# Altium schematic symbol library Microcontroller tinyAVR.SchLib: 370 symbols (part 6 of 11)
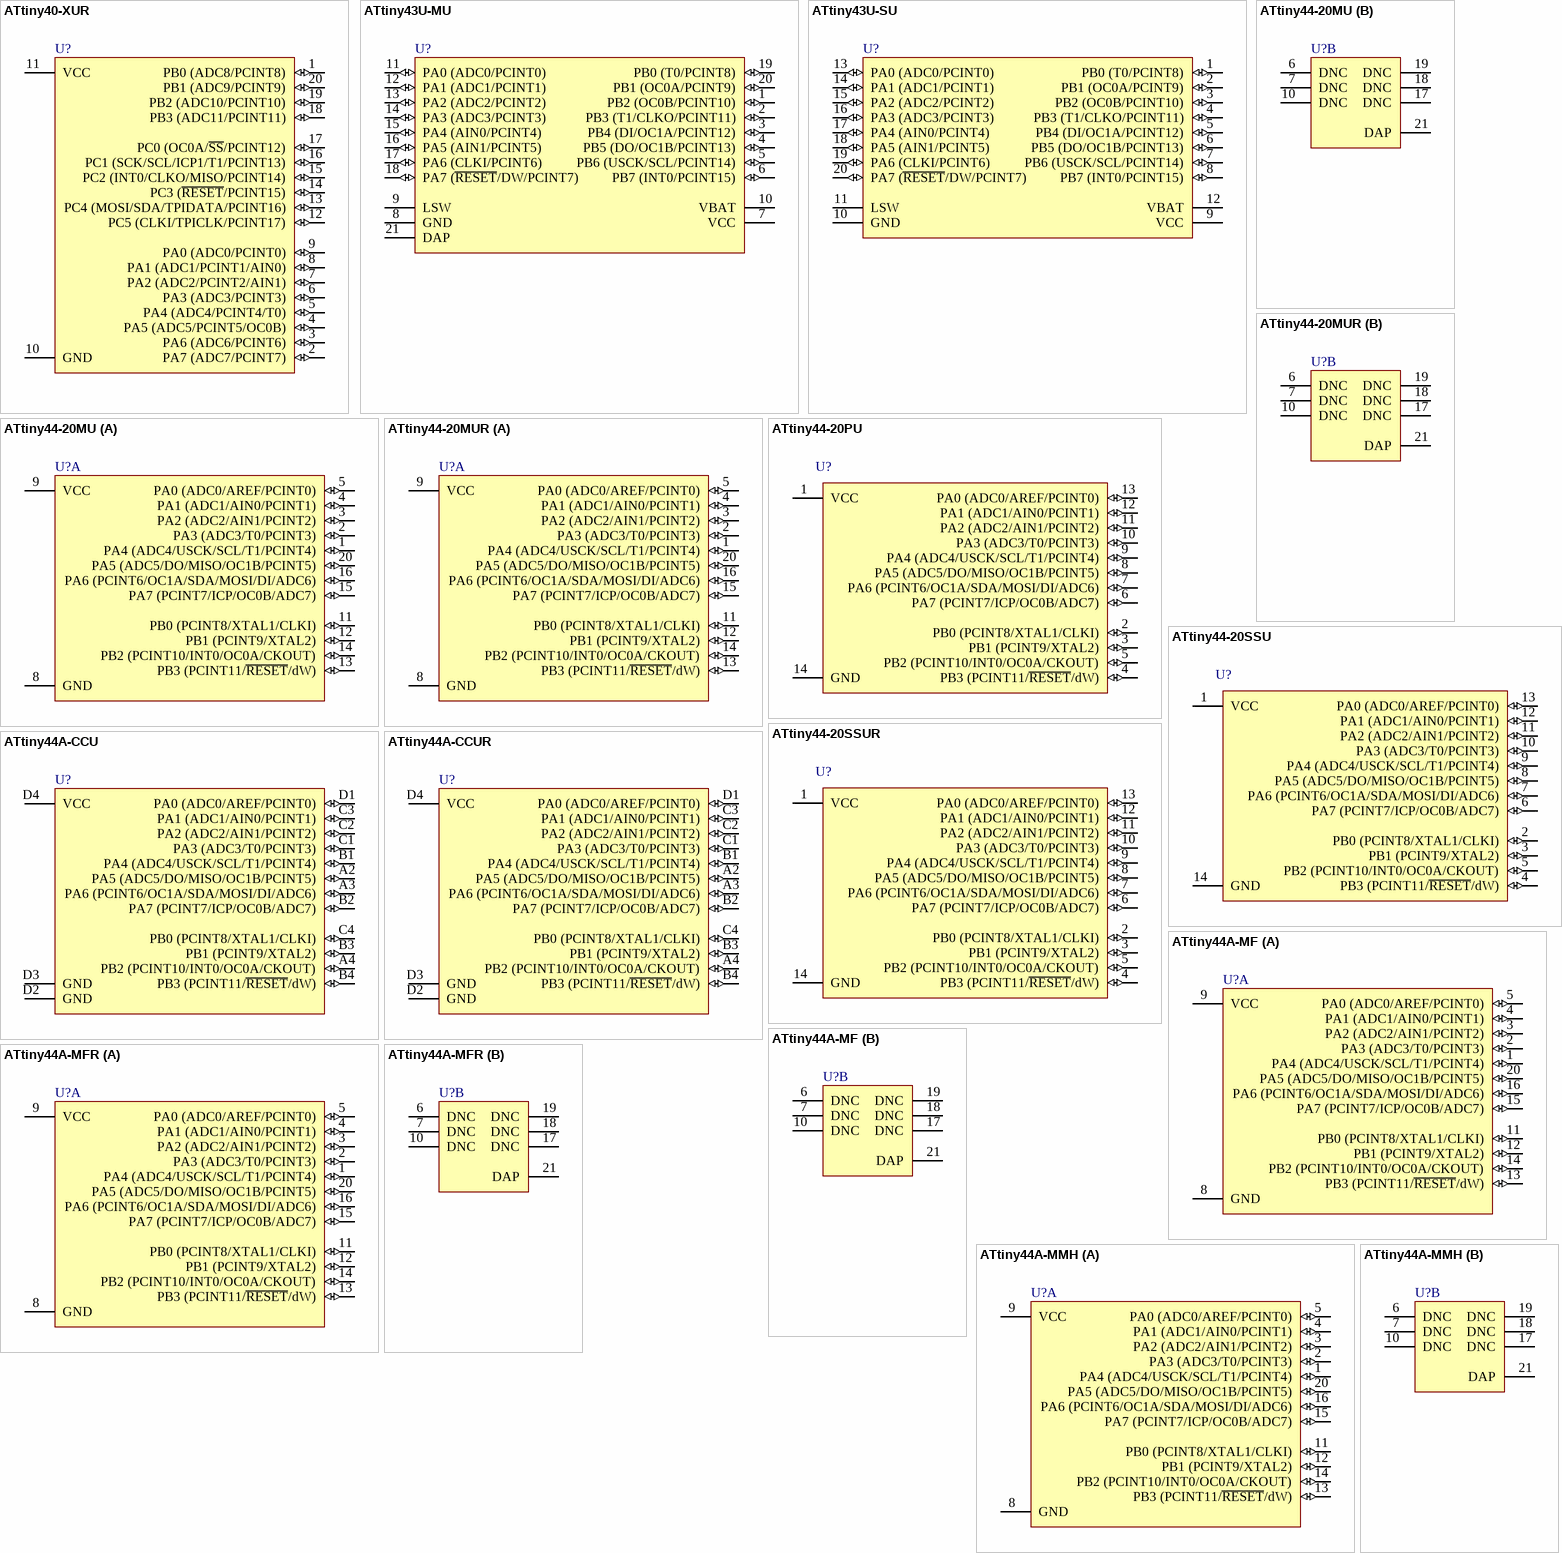
[diagram p31: symbols ATtiny40-XUR to ATtiny44A-MMH]

## ATtiny44A-MFR
designator U?
8-bit AVR Microcontroller,  20MHz, 1.8-5.5V, 4KB Flash, 256 Bytes EEPROM, 256 Bytes SRAM, 20-pin MLF, Industrial Grade (-40°C to 125°C), Pb-Free, Reel; DatasheetVersion: revD, Apr-2011; PackageVersion: revA, Oct-2004; PackageReference: 20M1; PackageDescription: 20-pad, 4 x 4 x 0.8 mm Body, Lead Pitch 0.50 mm, 2.6 mm Exposed Pad, Micro Lead Frame Package (MLF); Code_JEDEC: MO-220WGGD-5; ComponentLink1Description: Manufacturer URL; ComponentLink1URL: http://www.atmel.com/; ComponentLink2Description: ATtiny24A/44A/84A Datasheet; ComponentLink2URL: http://www.atmel.com/dyn/resources/prod_documents/doc8183.pdf; ComponentLink3Description: ATtiny24A/44A/84A Summary; ComponentLink3URL: http://www.atmel.com/dyn/resources/prod_documents/8183S.pdf
footprint 20M1_N (QFN, 20-Leads, Body 4x4mm, Pitch 0.5mm, Thermal Pad 2.7x2.7mm, IPC Medium Density)
footprint 20M1_L (QFN, 20-Leads, Body 4x4mm, Pitch 0.5mm, Thermal Pad 2.7x2.7mm, IPC High Density)
footprint 20M1_M (QFN, 20-Leads, Body 4x4mm, Pitch 0.5mm, Thermal Pad 2.7x2.7mm, IPC Low Density)
part A pins: 1 PA4 (ADC4/USCK/SCL/T1/PCINT4) (io), 2 PA3 (ADC3/T0/PCINT3) (io), 3 PA2 (ADC2/AIN1/PCINT2) (io), 4 PA1 (ADC1/AIN0/PCINT1) (io), 5 PA0 (ADC0/AREF/PCINT0) (io), 8 GND (power), 9 VCC (power), 11 PB0 (PCINT8/XTAL1/CLKI) (io), 12 PB1 (PCINT9/XTAL2) (io), 13 PB3 (PCINT11/~{RESET}/dW) (io), 14 PB2 (PCINT10/INT0/OC0A/CKOUT) (io), 15 PA7 (PCINT7/ICP/OC0B/ADC7) (io), 16 PA6 (PCINT6/OC1A/SDA/MOSI/DI/ADC6) (io), 20 PA5 (ADC5/DO/MISO/OC1B/PCINT5) (io)
part B pins: 6 DNC, 7 DNC, 10 DNC, 17 DNC, 18 DNC, 19 DNC, 21 DAP (power)

## ATtiny44A-MMH
designator U?
8-bit AVR Microcontroller,  20MHz, 1.8-5.5V, 4KB Flash, 256 Bytes EEPROM, 256 Bytes SRAM, 20-pin VQFN, Industrial Grade (-40°C to 85°C), Pb-Free; DatasheetVersion: revD, Apr-2011; PackageVersion: revB, Oct-2008; PackageReference: 20M2; PackageDescription: 20-pad, 3x3x0.85mm Body, Pitch 0.45mm, 1.55x1.55mm Exposed Pad, Plastic Very Thin QFN Package (VQFN); ComponentLink1Description: Manufacturer URL; ComponentLink1URL: http://www.atmel.com/; ComponentLink2Description: ATtiny24A/44A/84A Datasheet; ComponentLink2URL: http://www.atmel.com/dyn/resources/prod_documents/doc8183.pdf; ComponentLink3Description: ATtiny24A/44A/84A Summary; ComponentLink3URL: http://www.atmel.com/dyn/resources/prod_documents/8183S.pdf
footprint 20M2_N (QFN, 20-Leads, Body 3x3mm, Pitch 0.45mm, Thermal Pad 1.7x1.7mm, IPC Medium Density)
footprint 20M2_L (QFN, 20-Leads, Body 3x3mm, Pitch 0.45mm, Thermal Pad 1.7x1.7mm, IPC High Density)
footprint 20M2_M (QFN, 20-Leads, Body 3x3mm, Pitch 0.45mm, Thermal Pad 1.7x1.7mm, IPC Low Density)
part A pins: 1 PA4 (ADC4/USCK/SCL/T1/PCINT4) (io), 2 PA3 (ADC3/T0/PCINT3) (io), 3 PA2 (ADC2/AIN1/PCINT2) (io), 4 PA1 (ADC1/AIN0/PCINT1) (io), 5 PA0 (ADC0/AREF/PCINT0) (io), 8 GND (power), 9 VCC (power), 11 PB0 (PCINT8/XTAL1/CLKI) (io), 12 PB1 (PCINT9/XTAL2) (io), 13 PB3 (PCINT11/~{RESET}/dW) (io), 14 PB2 (PCINT10/INT0/OC0A/CKOUT) (io), 15 PA7 (PCINT7/ICP/OC0B/ADC7) (io), 16 PA6 (PCINT6/OC1A/SDA/MOSI/DI/ADC6) (io), 20 PA5 (ADC5/DO/MISO/OC1B/PCINT5) (io)
part B pins: 6 DNC, 7 DNC, 10 DNC, 17 DNC, 18 DNC, 19 DNC, 21 DAP (power)

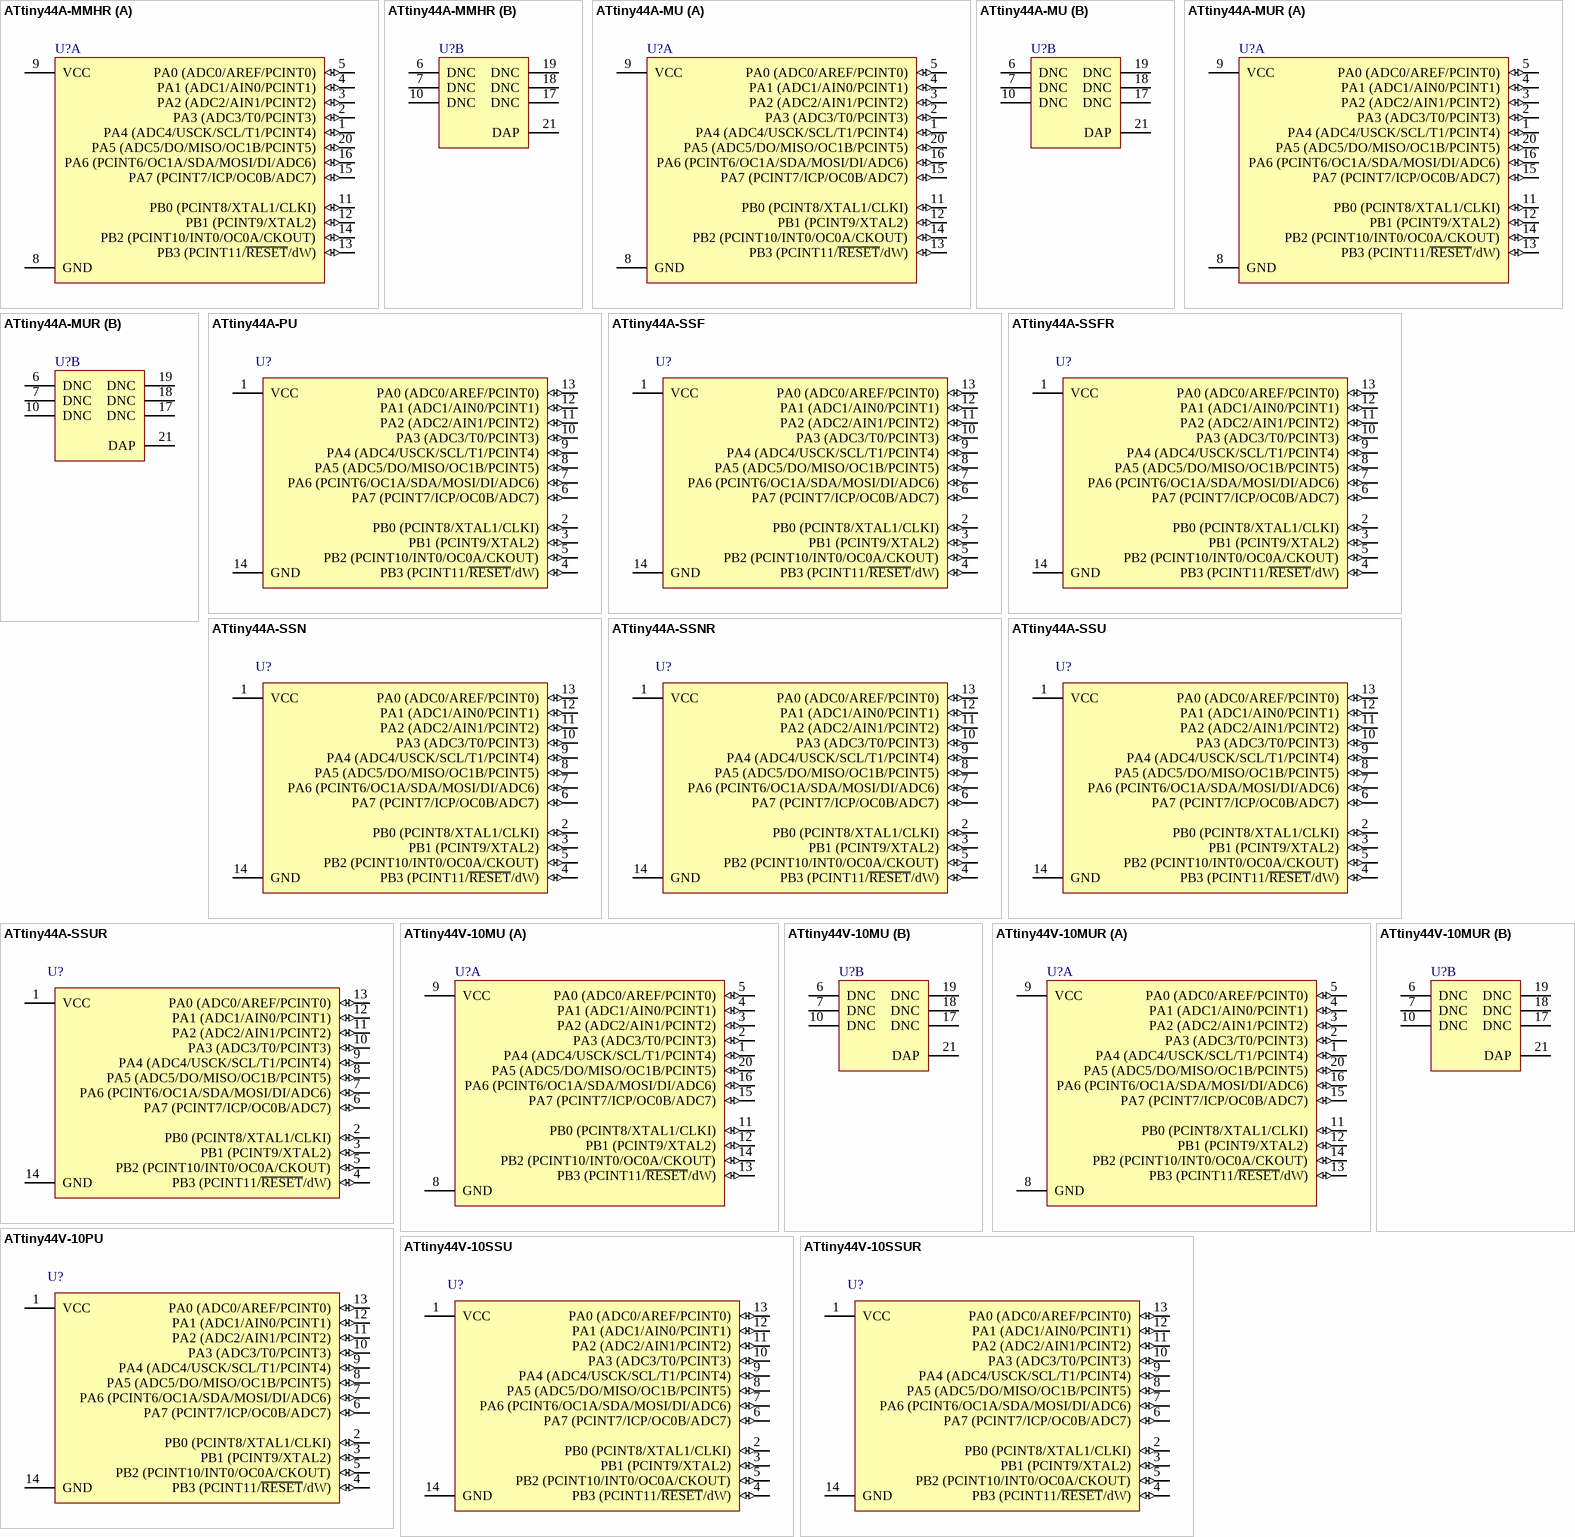
[diagram p12: symbols ATtiny44A-MMHR to ATtiny44V-10SSUR]

## ATtiny44A-MMHR
designator U?
8-bit AVR Microcontroller,  20MHz, 1.8-5.5V, 4KB Flash, 256 Bytes EEPROM, 256 Bytes SRAM, 20-pin VQFN, Industrial Grade (-40°C to 85°C), Pb-Free, Reel; DatasheetVersion: revD, Apr-2011; PackageVersion: revB, Oct-2008; PackageReference: 20M2; PackageDescription: 20-pad, 3x3x0.85mm Body, Pitch 0.45mm, 1.55x1.55mm Exposed Pad, Plastic Very Thin QFN Package (VQFN); ComponentLink1Description: Manufacturer URL; ComponentLink1URL: http://www.atmel.com/; ComponentLink2Description: ATtiny24A/44A/84A Datasheet; ComponentLink2URL: http://www.atmel.com/dyn/resources/prod_documents/doc8183.pdf; ComponentLink3Description: ATtiny24A/44A/84A Summary; ComponentLink3URL: http://www.atmel.com/dyn/resources/prod_documents/8183S.pdf
footprint 20M2_N (QFN, 20-Leads, Body 3x3mm, Pitch 0.45mm, Thermal Pad 1.7x1.7mm, IPC Medium Density)
footprint 20M2_L (QFN, 20-Leads, Body 3x3mm, Pitch 0.45mm, Thermal Pad 1.7x1.7mm, IPC High Density)
footprint 20M2_M (QFN, 20-Leads, Body 3x3mm, Pitch 0.45mm, Thermal Pad 1.7x1.7mm, IPC Low Density)
part A pins: 1 PA4 (ADC4/USCK/SCL/T1/PCINT4) (io), 2 PA3 (ADC3/T0/PCINT3) (io), 3 PA2 (ADC2/AIN1/PCINT2) (io), 4 PA1 (ADC1/AIN0/PCINT1) (io), 5 PA0 (ADC0/AREF/PCINT0) (io), 8 GND (power), 9 VCC (power), 11 PB0 (PCINT8/XTAL1/CLKI) (io), 12 PB1 (PCINT9/XTAL2) (io), 13 PB3 (PCINT11/~{RESET}/dW) (io), 14 PB2 (PCINT10/INT0/OC0A/CKOUT) (io), 15 PA7 (PCINT7/ICP/OC0B/ADC7) (io), 16 PA6 (PCINT6/OC1A/SDA/MOSI/DI/ADC6) (io), 20 PA5 (ADC5/DO/MISO/OC1B/PCINT5) (io)
part B pins: 6 DNC, 7 DNC, 10 DNC, 17 DNC, 18 DNC, 19 DNC, 21 DAP (power)

## ATtiny44A-MU
designator U?
8-bit AVR Microcontroller,  20MHz, 1.8-5.5V, 4KB Flash, 256 Bytes EEPROM, 256 Bytes SRAM, 20-pin MLF, Industrial Grade (-40°C to 85°C), Pb-Free; DatasheetVersion: revD, Apr-2011; PackageVersion: revA, Oct-2004; PackageReference: 20M1; PackageDescription: 20-pad, 4 x 4 x 0.8 mm Body, Lead Pitch 0.50 mm, 2.6 mm Exposed Pad, Micro Lead Frame Package (MLF); Code_JEDEC: MO-220WGGD-5; ComponentLink1Description: Manufacturer URL; ComponentLink1URL: http://www.atmel.com/; ComponentLink2Description: ATtiny24A/44A/84A Datasheet; ComponentLink2URL: http://www.atmel.com/dyn/resources/prod_documents/doc8183.pdf; ComponentLink3Description: ATtiny24A/44A/84A Summary; ComponentLink3URL: http://www.atmel.com/dyn/resources/prod_documents/8183S.pdf
footprint 20M1_N (QFN, 20-Leads, Body 4x4mm, Pitch 0.5mm, Thermal Pad 2.7x2.7mm, IPC Medium Density)
footprint 20M1_L (QFN, 20-Leads, Body 4x4mm, Pitch 0.5mm, Thermal Pad 2.7x2.7mm, IPC High Density)
footprint 20M1_M (QFN, 20-Leads, Body 4x4mm, Pitch 0.5mm, Thermal Pad 2.7x2.7mm, IPC Low Density)
part A pins: 1 PA4 (ADC4/USCK/SCL/T1/PCINT4) (io), 2 PA3 (ADC3/T0/PCINT3) (io), 3 PA2 (ADC2/AIN1/PCINT2) (io), 4 PA1 (ADC1/AIN0/PCINT1) (io), 5 PA0 (ADC0/AREF/PCINT0) (io), 8 GND (power), 9 VCC (power), 11 PB0 (PCINT8/XTAL1/CLKI) (io), 12 PB1 (PCINT9/XTAL2) (io), 13 PB3 (PCINT11/~{RESET}/dW) (io), 14 PB2 (PCINT10/INT0/OC0A/CKOUT) (io), 15 PA7 (PCINT7/ICP/OC0B/ADC7) (io), 16 PA6 (PCINT6/OC1A/SDA/MOSI/DI/ADC6) (io), 20 PA5 (ADC5/DO/MISO/OC1B/PCINT5) (io)
part B pins: 6 DNC, 7 DNC, 10 DNC, 17 DNC, 18 DNC, 19 DNC, 21 DAP (power)

## ATtiny44A-MUR
designator U?
8-bit AVR Microcontroller,  20MHz, 1.8-5.5V, 4KB Flash, 256 Bytes EEPROM, 256 Bytes SRAM, 20-pin MLF, Industrial Grade (-40°C to 85°C), Pb-Free, Reel; DatasheetVersion: revD, Apr-2011; PackageVersion: revA, Oct-2004; PackageReference: 20M1; PackageDescription: 20-pad, 4 x 4 x 0.8 mm Body, Lead Pitch 0.50 mm, 2.6 mm Exposed Pad, Micro Lead Frame Package (MLF); Code_JEDEC: MO-220WGGD-5; ComponentLink1Description: Manufacturer URL; ComponentLink1URL: http://www.atmel.com/; ComponentLink2Description: ATtiny24A/44A/84A Datasheet; ComponentLink2URL: http://www.atmel.com/dyn/resources/prod_documents/doc8183.pdf; ComponentLink3Description: ATtiny24A/44A/84A Summary; ComponentLink3URL: http://www.atmel.com/dyn/resources/prod_documents/8183S.pdf
footprint 20M1_N (QFN, 20-Leads, Body 4x4mm, Pitch 0.5mm, Thermal Pad 2.7x2.7mm, IPC Medium Density)
footprint 20M1_L (QFN, 20-Leads, Body 4x4mm, Pitch 0.5mm, Thermal Pad 2.7x2.7mm, IPC High Density)
footprint 20M1_M (QFN, 20-Leads, Body 4x4mm, Pitch 0.5mm, Thermal Pad 2.7x2.7mm, IPC Low Density)
part A pins: 1 PA4 (ADC4/USCK/SCL/T1/PCINT4) (io), 2 PA3 (ADC3/T0/PCINT3) (io), 3 PA2 (ADC2/AIN1/PCINT2) (io), 4 PA1 (ADC1/AIN0/PCINT1) (io), 5 PA0 (ADC0/AREF/PCINT0) (io), 8 GND (power), 9 VCC (power), 11 PB0 (PCINT8/XTAL1/CLKI) (io), 12 PB1 (PCINT9/XTAL2) (io), 13 PB3 (PCINT11/~{RESET}/dW) (io), 14 PB2 (PCINT10/INT0/OC0A/CKOUT) (io), 15 PA7 (PCINT7/ICP/OC0B/ADC7) (io), 16 PA6 (PCINT6/OC1A/SDA/MOSI/DI/ADC6) (io), 20 PA5 (ADC5/DO/MISO/OC1B/PCINT5) (io)
part B pins: 6 DNC, 7 DNC, 10 DNC, 17 DNC, 18 DNC, 19 DNC, 21 DAP (power)

## ATtiny44A-PU
designator U?
8-bit AVR Microcontroller,  20MHz, 1.8-5.5V, 4KB Flash, 256 Bytes EEPROM, 256 Bytes SRAM, 14-pin PDIP, Industrial Grade (-40°C to 85°C), Pb-Free; DatasheetVersion: revD, Apr-2011; PackageVersion: revB, Oct-2010; PackageReference: 14P3; PackageDescription: 14-Lead Plastic Dual In-Line, 300 mil/7.62 mm Wide Body (PDIP); Code_JEDEC: MS-001-AA; ComponentLink1Description: Manufacturer URL; ComponentLink1URL: http://www.atmel.com/; ComponentLink2Description: ATtiny24A/44A/84A Datasheet; ComponentLink2URL: http://www.atmel.com/dyn/resources/prod_documents/doc8183.pdf; ComponentLink3Description: ATtiny24A/44A/84A Summary; ComponentLink3URL: http://www.atmel.com/dyn/resources/prod_documents/8183S.pdf
footprint 14P3 (DIP, 14-Leads, Row Spacing 7.62mm, Pitch 2.54mm, Body 19.2x6.6mm)
pins: 1 VCC (power), 2 PB0 (PCINT8/XTAL1/CLKI) (io), 3 PB1 (PCINT9/XTAL2) (io), 4 PB3 (PCINT11/~{RESET}/dW) (io), 5 PB2 (PCINT10/INT0/OC0A/CKOUT) (io), 6 PA7 (PCINT7/ICP/OC0B/ADC7) (io), 7 PA6 (PCINT6/OC1A/SDA/MOSI/DI/ADC6) (io), 8 PA5 (ADC5/DO/MISO/OC1B/PCINT5) (io), 9 PA4 (ADC4/USCK/SCL/T1/PCINT4) (io), 10 PA3 (ADC3/T0/PCINT3) (io), 11 PA2 (ADC2/AIN1/PCINT2) (io), 12 PA1 (ADC1/AIN0/PCINT1) (io), 13 PA0 (ADC0/AREF/PCINT0) (io), 14 GND (power)

## ATtiny44A-SSF
designator U?
8-bit AVR Microcontroller,  20MHz, 1.8-5.5V, 4KB Flash, 256 Bytes EEPROM, 256 Bytes SRAM, 14-pin SOIC, Industrial Grade (-40°C to 125°C), Pb-Free; DatasheetVersion: revD, Apr-2011; PackageVersion: revA, Feb-2002; PackageReference: 14S1; PackageDescription: 14-Lead, 0.150” Wide Body, Plastic Gull Wing Small Outline Package (SOIC); Code_JEDEC: MS-012-AB; Code_IPC: SOIC127P600-14; ComponentLink1Description: Manufacturer URL; ComponentLink1URL: http://www.atmel.com/; ComponentLink2Description: ATtiny24A/44A/84A Datasheet; ComponentLink2URL: http://www.atmel.com/dyn/resources/prod_documents/doc8183.pdf; ComponentLink3Description: ATtiny24A/44A/84A Summary; ComponentLink3URL: http://www.atmel.com/dyn/resources/prod_documents/8183S.pdf
footprint 14S1_N (SOIC, 14-Leads, Body 8.6x3.9mm, Pitch 1.27mm, IPC Medium Density)
footprint 14S1_L (SOIC, 14-Leads, Body 8.6x3.9mm, Pitch 1.27mm, IPC High Density)
footprint 14S1_M (SOIC, 14-Leads, Body 8.6x3.9mm, Pitch 1.27mm, IPC Low Density)
pins: 1 VCC (power), 2 PB0 (PCINT8/XTAL1/CLKI) (io), 3 PB1 (PCINT9/XTAL2) (io), 4 PB3 (PCINT11/~{RESET}/dW) (io), 5 PB2 (PCINT10/INT0/OC0A/CKOUT) (io), 6 PA7 (PCINT7/ICP/OC0B/ADC7) (io), 7 PA6 (PCINT6/OC1A/SDA/MOSI/DI/ADC6) (io), 8 PA5 (ADC5/DO/MISO/OC1B/PCINT5) (io), 9 PA4 (ADC4/USCK/SCL/T1/PCINT4) (io), 10 PA3 (ADC3/T0/PCINT3) (io), 11 PA2 (ADC2/AIN1/PCINT2) (io), 12 PA1 (ADC1/AIN0/PCINT1) (io), 13 PA0 (ADC0/AREF/PCINT0) (io), 14 GND (power)

## ATtiny44A-SSFR
designator U?
8-bit AVR Microcontroller,  20MHz, 1.8-5.5V, 4KB Flash, 256 Bytes EEPROM, 256 Bytes SRAM, 14-pin SOIC, Industrial Grade (-40°C to 125°C), Pb-Free, Reel; DatasheetVersion: revD, Apr-2011; PackageVersion: revA, Feb-2002; PackageReference: 14S1; PackageDescription: 14-Lead, 0.150” Wide Body, Plastic Gull Wing Small Outline Package (SOIC); Code_JEDEC: MS-012-AB; Code_IPC: SOIC127P600-14; ComponentLink1Description: Manufacturer URL; ComponentLink1URL: http://www.atmel.com/; ComponentLink2Description: ATtiny24A/44A/84A Datasheet; ComponentLink2URL: http://www.atmel.com/dyn/resources/prod_documents/doc8183.pdf; ComponentLink3Description: ATtiny24A/44A/84A Summary; ComponentLink3URL: http://www.atmel.com/dyn/resources/prod_documents/8183S.pdf
footprint 14S1_N (SOIC, 14-Leads, Body 8.6x3.9mm, Pitch 1.27mm, IPC Medium Density)
footprint 14S1_L (SOIC, 14-Leads, Body 8.6x3.9mm, Pitch 1.27mm, IPC High Density)
footprint 14S1_M (SOIC, 14-Leads, Body 8.6x3.9mm, Pitch 1.27mm, IPC Low Density)
pins: 1 VCC (power), 2 PB0 (PCINT8/XTAL1/CLKI) (io), 3 PB1 (PCINT9/XTAL2) (io), 4 PB3 (PCINT11/~{RESET}/dW) (io), 5 PB2 (PCINT10/INT0/OC0A/CKOUT) (io), 6 PA7 (PCINT7/ICP/OC0B/ADC7) (io), 7 PA6 (PCINT6/OC1A/SDA/MOSI/DI/ADC6) (io), 8 PA5 (ADC5/DO/MISO/OC1B/PCINT5) (io), 9 PA4 (ADC4/USCK/SCL/T1/PCINT4) (io), 10 PA3 (ADC3/T0/PCINT3) (io), 11 PA2 (ADC2/AIN1/PCINT2) (io), 12 PA1 (ADC1/AIN0/PCINT1) (io), 13 PA0 (ADC0/AREF/PCINT0) (io), 14 GND (power)

## ATtiny44A-SSN
designator U?
8-bit AVR Microcontroller,  20MHz, 1.8-5.5V, 4KB Flash, 256 Bytes EEPROM, 256 Bytes SRAM, 14-pin SOIC, Industrial Grade (-40°C to 105°C), Pb-Free; DatasheetVersion: revD, Apr-2011; PackageVersion: revA, Feb-2002; PackageReference: 14S1; PackageDescription: 14-Lead, 0.150” Wide Body, Plastic Gull Wing Small Outline Package (SOIC); Code_JEDEC: MS-012-AB; Code_IPC: SOIC127P600-14; ComponentLink1Description: Manufacturer URL; ComponentLink1URL: http://www.atmel.com/; ComponentLink2Description: ATtiny24A/44A/84A Datasheet; ComponentLink2URL: http://www.atmel.com/dyn/resources/prod_documents/doc8183.pdf; ComponentLink3Description: ATtiny24A/44A/84A Summary; ComponentLink3URL: http://www.atmel.com/dyn/resources/prod_documents/8183S.pdf
footprint 14S1_N (SOIC, 14-Leads, Body 8.6x3.9mm, Pitch 1.27mm, IPC Medium Density)
footprint 14S1_L (SOIC, 14-Leads, Body 8.6x3.9mm, Pitch 1.27mm, IPC High Density)
footprint 14S1_M (SOIC, 14-Leads, Body 8.6x3.9mm, Pitch 1.27mm, IPC Low Density)
pins: 1 VCC (power), 2 PB0 (PCINT8/XTAL1/CLKI) (io), 3 PB1 (PCINT9/XTAL2) (io), 4 PB3 (PCINT11/~{RESET}/dW) (io), 5 PB2 (PCINT10/INT0/OC0A/CKOUT) (io), 6 PA7 (PCINT7/ICP/OC0B/ADC7) (io), 7 PA6 (PCINT6/OC1A/SDA/MOSI/DI/ADC6) (io), 8 PA5 (ADC5/DO/MISO/OC1B/PCINT5) (io), 9 PA4 (ADC4/USCK/SCL/T1/PCINT4) (io), 10 PA3 (ADC3/T0/PCINT3) (io), 11 PA2 (ADC2/AIN1/PCINT2) (io), 12 PA1 (ADC1/AIN0/PCINT1) (io), 13 PA0 (ADC0/AREF/PCINT0) (io), 14 GND (power)

## ATtiny44A-SSNR
designator U?
8-bit AVR Microcontroller,  20MHz, 1.8-5.5V, 4KB Flash, 256 Bytes EEPROM, 256 Bytes SRAM, 14-pin SOIC, Industrial Grade (-40°C to 105°C), Pb-Free, Reel; DatasheetVersion: revD, Apr-2011; PackageVersion: revA, Feb-2002; PackageReference: 14S1; PackageDescription: 14-Lead, 0.150” Wide Body, Plastic Gull Wing Small Outline Package (SOIC); Code_JEDEC: MS-012-AB; Code_IPC: SOIC127P600-14; ComponentLink1Description: Manufacturer URL; ComponentLink1URL: http://www.atmel.com/; ComponentLink2Description: ATtiny24A/44A/84A Datasheet; ComponentLink2URL: http://www.atmel.com/dyn/resources/prod_documents/doc8183.pdf; ComponentLink3Description: ATtiny24A/44A/84A Summary; ComponentLink3URL: http://www.atmel.com/dyn/resources/prod_documents/8183S.pdf
footprint 14S1_N (SOIC, 14-Leads, Body 8.6x3.9mm, Pitch 1.27mm, IPC Medium Density)
footprint 14S1_L (SOIC, 14-Leads, Body 8.6x3.9mm, Pitch 1.27mm, IPC High Density)
footprint 14S1_M (SOIC, 14-Leads, Body 8.6x3.9mm, Pitch 1.27mm, IPC Low Density)
pins: 1 VCC (power), 2 PB0 (PCINT8/XTAL1/CLKI) (io), 3 PB1 (PCINT9/XTAL2) (io), 4 PB3 (PCINT11/~{RESET}/dW) (io), 5 PB2 (PCINT10/INT0/OC0A/CKOUT) (io), 6 PA7 (PCINT7/ICP/OC0B/ADC7) (io), 7 PA6 (PCINT6/OC1A/SDA/MOSI/DI/ADC6) (io), 8 PA5 (ADC5/DO/MISO/OC1B/PCINT5) (io), 9 PA4 (ADC4/USCK/SCL/T1/PCINT4) (io), 10 PA3 (ADC3/T0/PCINT3) (io), 11 PA2 (ADC2/AIN1/PCINT2) (io), 12 PA1 (ADC1/AIN0/PCINT1) (io), 13 PA0 (ADC0/AREF/PCINT0) (io), 14 GND (power)

## ATtiny44A-SSU
designator U?
8-bit AVR Microcontroller,  20MHz, 1.8-5.5V, 4KB Flash, 256 Bytes EEPROM, 256 Bytes SRAM, 14-pin SOIC, Industrial Grade (-40°C to 85°C), Pb-Free; DatasheetVersion: revD, Apr-2011; PackageVersion: revA, Feb-2002; PackageReference: 14S1; PackageDescription: 14-Lead, 0.150” Wide Body, Plastic Gull Wing Small Outline Package (SOIC); Code_JEDEC: MS-012-AB; Code_IPC: SOIC127P600-14; ComponentLink1Description: Manufacturer URL; ComponentLink1URL: http://www.atmel.com/; ComponentLink2Description: ATtiny24A/44A/84A Datasheet; ComponentLink2URL: http://www.atmel.com/dyn/resources/prod_documents/doc8183.pdf; ComponentLink3Description: ATtiny24A/44A/84A Summary; ComponentLink3URL: http://www.atmel.com/dyn/resources/prod_documents/8183S.pdf
footprint 14S1_N (SOIC, 14-Leads, Body 8.6x3.9mm, Pitch 1.27mm, IPC Medium Density)
footprint 14S1_L (SOIC, 14-Leads, Body 8.6x3.9mm, Pitch 1.27mm, IPC High Density)
footprint 14S1_M (SOIC, 14-Leads, Body 8.6x3.9mm, Pitch 1.27mm, IPC Low Density)
pins: 1 VCC (power), 2 PB0 (PCINT8/XTAL1/CLKI) (io), 3 PB1 (PCINT9/XTAL2) (io), 4 PB3 (PCINT11/~{RESET}/dW) (io), 5 PB2 (PCINT10/INT0/OC0A/CKOUT) (io), 6 PA7 (PCINT7/ICP/OC0B/ADC7) (io), 7 PA6 (PCINT6/OC1A/SDA/MOSI/DI/ADC6) (io), 8 PA5 (ADC5/DO/MISO/OC1B/PCINT5) (io), 9 PA4 (ADC4/USCK/SCL/T1/PCINT4) (io), 10 PA3 (ADC3/T0/PCINT3) (io), 11 PA2 (ADC2/AIN1/PCINT2) (io), 12 PA1 (ADC1/AIN0/PCINT1) (io), 13 PA0 (ADC0/AREF/PCINT0) (io), 14 GND (power)

## ATtiny44A-SSUR
designator U?
8-bit AVR Microcontroller,  20MHz, 1.8-5.5V, 4KB Flash, 256 Bytes EEPROM, 256 Bytes SRAM, 14-pin SOIC, Industrial Grade (-40°C to 85°C), Pb-Free, Reel; DatasheetVersion: revD, Apr-2011; PackageVersion: revA, Feb-2002; PackageReference: 14S1; PackageDescription: 14-Lead, 0.150” Wide Body, Plastic Gull Wing Small Outline Package (SOIC); Code_JEDEC: MS-012-AB; Code_IPC: SOIC127P600-14; ComponentLink1Description: Manufacturer URL; ComponentLink1URL: http://www.atmel.com/; ComponentLink2Description: ATtiny24A/44A/84A Datasheet; ComponentLink2URL: http://www.atmel.com/dyn/resources/prod_documents/doc8183.pdf; ComponentLink3Description: ATtiny24A/44A/84A Summary; ComponentLink3URL: http://www.atmel.com/dyn/resources/prod_documents/8183S.pdf
footprint 14S1_N (SOIC, 14-Leads, Body 8.6x3.9mm, Pitch 1.27mm, IPC Medium Density)
footprint 14S1_L (SOIC, 14-Leads, Body 8.6x3.9mm, Pitch 1.27mm, IPC High Density)
footprint 14S1_M (SOIC, 14-Leads, Body 8.6x3.9mm, Pitch 1.27mm, IPC Low Density)
pins: 1 VCC (power), 2 PB0 (PCINT8/XTAL1/CLKI) (io), 3 PB1 (PCINT9/XTAL2) (io), 4 PB3 (PCINT11/~{RESET}/dW) (io), 5 PB2 (PCINT10/INT0/OC0A/CKOUT) (io), 6 PA7 (PCINT7/ICP/OC0B/ADC7) (io), 7 PA6 (PCINT6/OC1A/SDA/MOSI/DI/ADC6) (io), 8 PA5 (ADC5/DO/MISO/OC1B/PCINT5) (io), 9 PA4 (ADC4/USCK/SCL/T1/PCINT4) (io), 10 PA3 (ADC3/T0/PCINT3) (io), 11 PA2 (ADC2/AIN1/PCINT2) (io), 12 PA1 (ADC1/AIN0/PCINT1) (io), 13 PA0 (ADC0/AREF/PCINT0) (io), 14 GND (power)

## ATtiny44V-10MU
designator U?
8-bit AVR Microcontroller, 10MHz, 1.8-5.5V, 4KB Flash, 256 Bytes EEPROM, 256 Bytes SRAM, 20-pin MLF, Industrial Grade (-40°C to 85°C), Pb-Free; DatasheetVersion: revK, Oct-2010; PackageVersion: revA, Oct-2004; PackageReference: 20M1; PackageDescription: 20-pad, 4 x 4 x 0.8 mm Body, Lead Pitch 0.50 mm, 2.6 mm Exposed Pad, Micro Lead Frame Package (MLF); Code_JEDEC: MO-220WGGD-5; ComponentLink1Description: Manufacturer URL; ComponentLink1URL: http://www.atmel.com/; ComponentLink2Description: ATtiny24/44/84 Datasheet; ComponentLink2URL: http://www.atmel.com/dyn/resources/prod_documents/doc8006.pdf; ComponentLink3Description: ATtiny24/44/84 Summary; ComponentLink3URL: http://www.atmel.com/dyn/resources/prod_documents/8006S.pdf
footprint 20M1_N (QFN, 20-Leads, Body 4x4mm, Pitch 0.5mm, Thermal Pad 2.7x2.7mm, IPC Medium Density)
footprint 20M1_L (QFN, 20-Leads, Body 4x4mm, Pitch 0.5mm, Thermal Pad 2.7x2.7mm, IPC High Density)
footprint 20M1_M (QFN, 20-Leads, Body 4x4mm, Pitch 0.5mm, Thermal Pad 2.7x2.7mm, IPC Low Density)
part A pins: 1 PA4 (ADC4/USCK/SCL/T1/PCINT4) (io), 2 PA3 (ADC3/T0/PCINT3) (io), 3 PA2 (ADC2/AIN1/PCINT2) (io), 4 PA1 (ADC1/AIN0/PCINT1) (io), 5 PA0 (ADC0/AREF/PCINT0) (io), 8 GND (power), 9 VCC (power), 11 PB0 (PCINT8/XTAL1/CLKI) (io), 12 PB1 (PCINT9/XTAL2) (io), 13 PB3 (PCINT11/~{RESET}/dW) (io), 14 PB2 (PCINT10/INT0/OC0A/CKOUT) (io), 15 PA7 (PCINT7/ICP/OC0B/ADC7) (io), 16 PA6 (PCINT6/OC1A/SDA/MOSI/DI/ADC6) (io), 20 PA5 (ADC5/DO/MISO/OC1B/PCINT5) (io)
part B pins: 6 DNC, 7 DNC, 10 DNC, 17 DNC, 18 DNC, 19 DNC, 21 DAP (power)

## ATtiny44V-10MUR
designator U?
8-bit AVR Microcontroller, 10MHz, 1.8-5.5V, 4KB Flash, 256 Bytes EEPROM, 256 Bytes SRAM, 20-pin MLF, Industrial Grade (-40°C to 85°C), Pb-Free, Reel; DatasheetVersion: revK, Oct-2010; PackageVersion: revA, Oct-2004; PackageReference: 20M1; PackageDescription: 20-pad, 4 x 4 x 0.8 mm Body, Lead Pitch 0.50 mm, 2.6 mm Exposed Pad, Micro Lead Frame Package (MLF); Code_JEDEC: MO-220WGGD-5; ComponentLink1Description: Manufacturer URL; ComponentLink1URL: http://www.atmel.com/; ComponentLink2Description: ATtiny24/44/84 Datasheet; ComponentLink2URL: http://www.atmel.com/dyn/resources/prod_documents/doc8006.pdf; ComponentLink3Description: ATtiny24/44/84 Summary; ComponentLink3URL: http://www.atmel.com/dyn/resources/prod_documents/8006S.pdf
footprint 20M1_N (QFN, 20-Leads, Body 4x4mm, Pitch 0.5mm, Thermal Pad 2.7x2.7mm, IPC Medium Density)
footprint 20M1_L (QFN, 20-Leads, Body 4x4mm, Pitch 0.5mm, Thermal Pad 2.7x2.7mm, IPC High Density)
footprint 20M1_M (QFN, 20-Leads, Body 4x4mm, Pitch 0.5mm, Thermal Pad 2.7x2.7mm, IPC Low Density)
part A pins: 1 PA4 (ADC4/USCK/SCL/T1/PCINT4) (io), 2 PA3 (ADC3/T0/PCINT3) (io), 3 PA2 (ADC2/AIN1/PCINT2) (io), 4 PA1 (ADC1/AIN0/PCINT1) (io), 5 PA0 (ADC0/AREF/PCINT0) (io), 8 GND (power), 9 VCC (power), 11 PB0 (PCINT8/XTAL1/CLKI) (io), 12 PB1 (PCINT9/XTAL2) (io), 13 PB3 (PCINT11/~{RESET}/dW) (io), 14 PB2 (PCINT10/INT0/OC0A/CKOUT) (io), 15 PA7 (PCINT7/ICP/OC0B/ADC7) (io), 16 PA6 (PCINT6/OC1A/SDA/MOSI/DI/ADC6) (io), 20 PA5 (ADC5/DO/MISO/OC1B/PCINT5) (io)
part B pins: 6 DNC, 7 DNC, 10 DNC, 17 DNC, 18 DNC, 19 DNC, 21 DAP (power)

## ATtiny44V-10PU
designator U?
8-bit AVR Microcontroller, 10MHz, 1.8-5.5V, 4KB Flash, 256 Bytes EEPROM, 256 Bytes SRAM, 14-pin PDIP, Industrial Grade (-40°C to 85°C), Pb-Free; DatasheetVersion: revK, Oct-2010; PackageVersion: revB, Oct-2010; PackageReference: 14P3; PackageDescription: 14-Lead Plastic Dual In-Line, 300 mil/7.62 mm Wide Body (PDIP); Code_JEDEC: MS-001-AA; ComponentLink1Description: Manufacturer URL; ComponentLink1URL: http://www.atmel.com/; ComponentLink2Description: ATtiny24/44/84 Datasheet; ComponentLink2URL: http://www.atmel.com/dyn/resources/prod_documents/doc8006.pdf; ComponentLink3Description: ATtiny24/44/84 Summary; ComponentLink3URL: http://www.atmel.com/dyn/resources/prod_documents/8006S.pdf
footprint 14P3 (DIP, 14-Leads, Row Spacing 7.62mm, Pitch 2.54mm, Body 19.2x6.6mm)
pins: 1 VCC (power), 2 PB0 (PCINT8/XTAL1/CLKI) (io), 3 PB1 (PCINT9/XTAL2) (io), 4 PB3 (PCINT11/~{RESET}/dW) (io), 5 PB2 (PCINT10/INT0/OC0A/CKOUT) (io), 6 PA7 (PCINT7/ICP/OC0B/ADC7) (io), 7 PA6 (PCINT6/OC1A/SDA/MOSI/DI/ADC6) (io), 8 PA5 (ADC5/DO/MISO/OC1B/PCINT5) (io), 9 PA4 (ADC4/USCK/SCL/T1/PCINT4) (io), 10 PA3 (ADC3/T0/PCINT3) (io), 11 PA2 (ADC2/AIN1/PCINT2) (io), 12 PA1 (ADC1/AIN0/PCINT1) (io), 13 PA0 (ADC0/AREF/PCINT0) (io), 14 GND (power)

## ATtiny44V-10SSU
designator U?
8-bit AVR Microcontroller, 10MHz, 1.8-5.5V, 4KB Flash, 256 Bytes EEPROM, 256 Bytes SRAM, 14-pin SOIC, Industrial Grade (-40°C to 85°C), Pb-Free; DatasheetVersion: revK, Oct-2010; PackageVersion: revA, Feb-2002; PackageReference: 14S1; PackageDescription: 14-Lead, 0.150” Wide Body, Plastic Gull Wing Small Outline Package (SOIC); Code_JEDEC: MS-012-AB; Code_IPC: SOIC127P600-14; ComponentLink1Description: Manufacturer URL; ComponentLink1URL: http://www.atmel.com/; ComponentLink2Description: ATtiny24/44/84 Datasheet; ComponentLink2URL: http://www.atmel.com/dyn/resources/prod_documents/doc8006.pdf; ComponentLink3Description: ATtiny24/44/84 Summary; ComponentLink3URL: http://www.atmel.com/dyn/resources/prod_documents/8006S.pdf
footprint 14S1_N (SOIC, 14-Leads, Body 8.6x3.9mm, Pitch 1.27mm, IPC Medium Density)
footprint 14S1_L (SOIC, 14-Leads, Body 8.6x3.9mm, Pitch 1.27mm, IPC High Density)
footprint 14S1_M (SOIC, 14-Leads, Body 8.6x3.9mm, Pitch 1.27mm, IPC Low Density)
pins: 1 VCC (power), 2 PB0 (PCINT8/XTAL1/CLKI) (io), 3 PB1 (PCINT9/XTAL2) (io), 4 PB3 (PCINT11/~{RESET}/dW) (io), 5 PB2 (PCINT10/INT0/OC0A/CKOUT) (io), 6 PA7 (PCINT7/ICP/OC0B/ADC7) (io), 7 PA6 (PCINT6/OC1A/SDA/MOSI/DI/ADC6) (io), 8 PA5 (ADC5/DO/MISO/OC1B/PCINT5) (io), 9 PA4 (ADC4/USCK/SCL/T1/PCINT4) (io), 10 PA3 (ADC3/T0/PCINT3) (io), 11 PA2 (ADC2/AIN1/PCINT2) (io), 12 PA1 (ADC1/AIN0/PCINT1) (io), 13 PA0 (ADC0/AREF/PCINT0) (io), 14 GND (power)

## ATtiny44V-10SSUR
designator U?
8-bit AVR Microcontroller, 10MHz, 1.8-5.5V, 4KB Flash, 256 Bytes EEPROM, 256 Bytes SRAM, 14-pin SOIC, Industrial Grade (-40°C to 85°C), Pb-Free, Reel; DatasheetVersion: revK, Oct-2010; PackageVersion: revA, Feb-2002; PackageReference: 14S1; PackageDescription: 14-Lead, 0.150” Wide Body, Plastic Gull Wing Small Outline Package (SOIC); Code_JEDEC: MS-012-AB; Code_IPC: SOIC127P600-14; ComponentLink1Description: Manufacturer URL; ComponentLink1URL: http://www.atmel.com/; ComponentLink2Description: ATtiny24/44/84 Datasheet; ComponentLink2URL: http://www.atmel.com/dyn/resources/prod_documents/doc8006.pdf; ComponentLink3Description: ATtiny24/44/84 Summary; ComponentLink3URL: http://www.atmel.com/dyn/resources/prod_documents/8006S.pdf
footprint 14S1_N (SOIC, 14-Leads, Body 8.6x3.9mm, Pitch 1.27mm, IPC Medium Density)
footprint 14S1_L (SOIC, 14-Leads, Body 8.6x3.9mm, Pitch 1.27mm, IPC High Density)
footprint 14S1_M (SOIC, 14-Leads, Body 8.6x3.9mm, Pitch 1.27mm, IPC Low Density)
pins: 1 VCC (power), 2 PB0 (PCINT8/XTAL1/CLKI) (io), 3 PB1 (PCINT9/XTAL2) (io), 4 PB3 (PCINT11/~{RESET}/dW) (io), 5 PB2 (PCINT10/INT0/OC0A/CKOUT) (io), 6 PA7 (PCINT7/ICP/OC0B/ADC7) (io), 7 PA6 (PCINT6/OC1A/SDA/MOSI/DI/ADC6) (io), 8 PA5 (ADC5/DO/MISO/OC1B/PCINT5) (io), 9 PA4 (ADC4/USCK/SCL/T1/PCINT4) (io), 10 PA3 (ADC3/T0/PCINT3) (io), 11 PA2 (ADC2/AIN1/PCINT2) (io), 12 PA1 (ADC1/AIN0/PCINT1) (io), 13 PA0 (ADC0/AREF/PCINT0) (io), 14 GND (power)

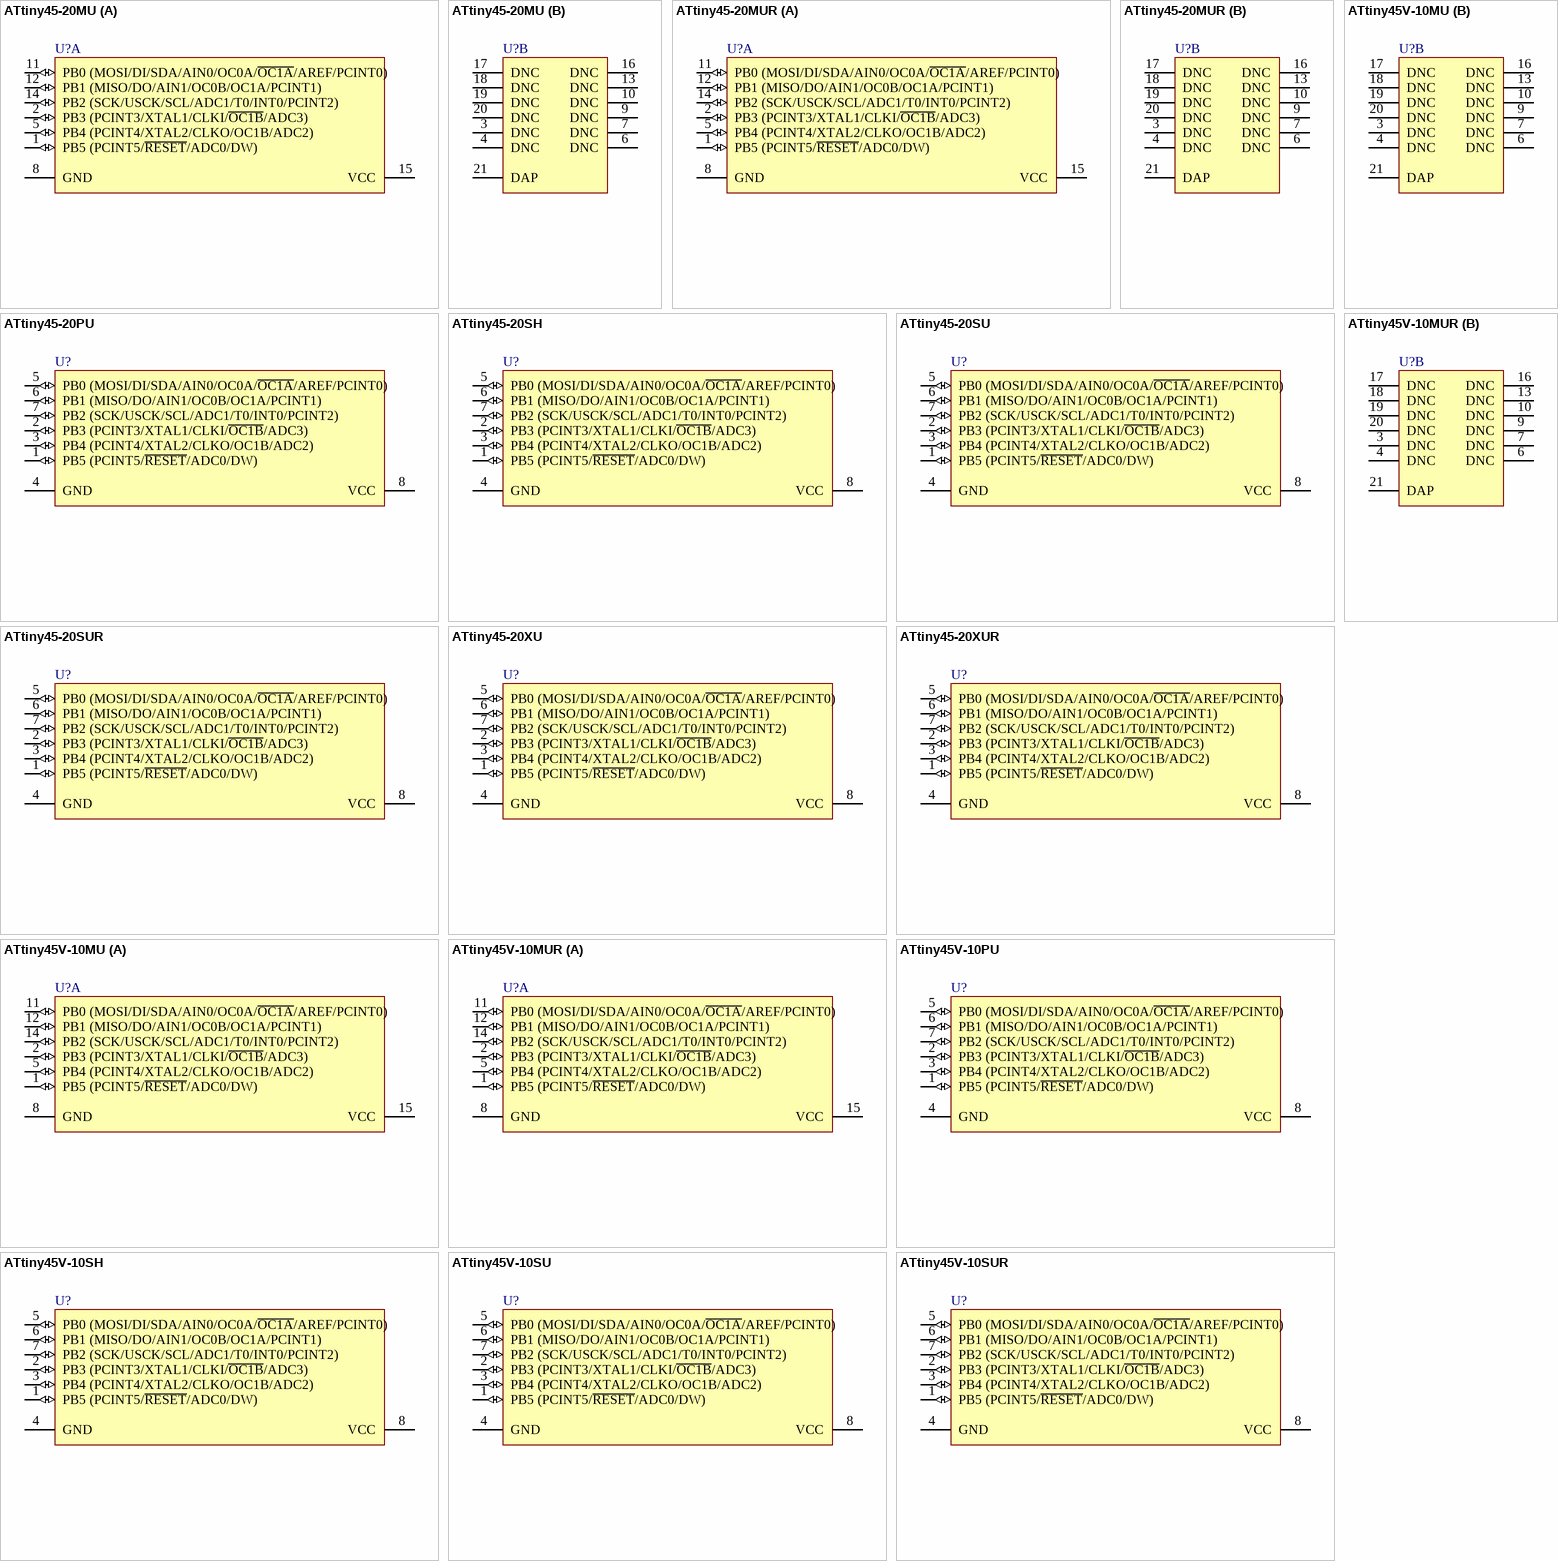
[diagram p13: symbols ATtiny45-20MU to ATtiny45V-10SUR]

## ATtiny45-20MU
designator U?
8-bit AVR Microcontroller, 20MHz, 2.7-5.5V, 4K Flash, 256 Bytes EEPROM, 256 Bytes SRAM, Industrial Grade (-40°C to 85°C), 20-pad MLF, Pb-Free; DatasheetVersion: revN, Apr-2011; PackageVersion: revA, Oct-2004; PackageReference: 20M1; PackageDescription: 20-pad, 4 x 4 x 0.8 mm Body, Lead Pitch 0.50 mm, 2.6 mm Exposed Pad, Micro Lead Frame Package (MLF); Code_JEDEC: MO-220WGGD-5; ComponentLink1Description: Manufacturer URL; ComponentLink1URL: http://www.atmel.com/; ComponentLink2Description: ATtiny25/45/85 Datasheet; ComponentLink2URL: http://www.atmel.com/dyn/resources/prod_documents/doc2586.pdf; ComponentLink3Description: ATtiny25/45/85 Summary; ComponentLink3URL: http://www.atmel.com/dyn/resources/prod_documents/2586S.pdf
footprint 20M1_N (QFN, 20-Leads, Body 4x4mm, Pitch 0.5mm, Thermal Pad 2.7x2.7mm, IPC Medium Density)
footprint 20M1_L (QFN, 20-Leads, Body 4x4mm, Pitch 0.5mm, Thermal Pad 2.7x2.7mm, IPC High Density)
footprint 20M1_M (QFN, 20-Leads, Body 4x4mm, Pitch 0.5mm, Thermal Pad 2.7x2.7mm, IPC Low Density)
part A pins: 1 PB5 (PCINT5/~{RESET}/ADC0/DW) (io), 2 PB3 (PCINT3/XTAL1/CLKI/~{OC1B}/ADC3) (io), 5 PB4 (PCINT4/XTAL2/CLKO/OC1B/ADC2) (io), 8 GND (power), 11 PB0 (MOSI/DI/SDA/AIN0/OC0A/~{OC1A}/AREF/PCINT0) (io), 12 PB1 (MISO/DO/AIN1/OC0B/OC1A/PCINT1) (io), 14 PB2 (SCK/USCK/SCL/ADC1/T0/INT0/PCINT2) (io), 15 VCC (power)
part B pins: 3 DNC, 4 DNC, 6 DNC, 7 DNC, 9 DNC, 10 DNC, 13 DNC, 16 DNC, 17 DNC, 18 DNC, 19 DNC, 20 DNC, 21 DAP

## ATtiny45-20MUR
designator U?
8-bit AVR Microcontroller, 20MHz, 2.7-5.5V, 4K Flash, 256 Bytes EEPROM, 256 Bytes SRAM, Industrial Grade (-40°C to 85°C), 20-pad MLF, Pb-Free, Reel; DatasheetVersion: revN, Apr-2011; PackageVersion: revA, Oct-2004; PackageReference: 20M1; PackageDescription: 20-pad, 4 x 4 x 0.8 mm Body, Lead Pitch 0.50 mm, 2.6 mm Exposed Pad, Micro Lead Frame Package (MLF); Code_JEDEC: MO-220WGGD-5; ComponentLink1Description: Manufacturer URL; ComponentLink1URL: http://www.atmel.com/; ComponentLink2Description: ATtiny25/45/85 Datasheet; ComponentLink2URL: http://www.atmel.com/dyn/resources/prod_documents/doc2586.pdf; ComponentLink3Description: ATtiny25/45/85 Summary; ComponentLink3URL: http://www.atmel.com/dyn/resources/prod_documents/2586S.pdf
footprint 20M1_N (QFN, 20-Leads, Body 4x4mm, Pitch 0.5mm, Thermal Pad 2.7x2.7mm, IPC Medium Density)
footprint 20M1_L (QFN, 20-Leads, Body 4x4mm, Pitch 0.5mm, Thermal Pad 2.7x2.7mm, IPC High Density)
footprint 20M1_M (QFN, 20-Leads, Body 4x4mm, Pitch 0.5mm, Thermal Pad 2.7x2.7mm, IPC Low Density)
part A pins: 1 PB5 (PCINT5/~{RESET}/ADC0/DW) (io), 2 PB3 (PCINT3/XTAL1/CLKI/~{OC1B}/ADC3) (io), 5 PB4 (PCINT4/XTAL2/CLKO/OC1B/ADC2) (io), 8 GND (power), 11 PB0 (MOSI/DI/SDA/AIN0/OC0A/~{OC1A}/AREF/PCINT0) (io), 12 PB1 (MISO/DO/AIN1/OC0B/OC1A/PCINT1) (io), 14 PB2 (SCK/USCK/SCL/ADC1/T0/INT0/PCINT2) (io), 15 VCC (power)
part B pins: 3 DNC, 4 DNC, 6 DNC, 7 DNC, 9 DNC, 10 DNC, 13 DNC, 16 DNC, 17 DNC, 18 DNC, 19 DNC, 20 DNC, 21 DAP

## ATtiny45-20PU
designator U?
8-bit AVR Microcontroller, 20MHz, 2.7-5.5V, 4K Flash, 256 Bytes EEPROM, 256 Bytes SRAM, Industrial Grade (-40°C to 85°C), 8-Lead PDIP, Pb-Free; DatasheetVersion: revN, Apr-2011; PackageVersion: revB, Jan-2002; PackageReference: 8P3; PackageDescription: 8-Lead, 0.300" Wide Body, Plastic Dual In-Line Package (PDIP); Code_JEDEC: MS-001-BA; ComponentLink1Description: Manufacturer URL; ComponentLink1URL: http://www.atmel.com/; ComponentLink2Description: ATtiny25/45/85 Datasheet; ComponentLink2URL: http://www.atmel.com/dyn/resources/prod_documents/doc2586.pdf; ComponentLink3Description: ATtiny25/45/85 Summary; ComponentLink3URL: http://www.atmel.com/dyn/resources/prod_documents/2586S.pdf
footprint 8P3 (DIP, 8-Leads, Row Spacing 7.62mm, Pitch 2.54mm, Body 9.59x6.61mm)
pins: 1 PB5 (PCINT5/~{RESET}/ADC0/DW) (io), 2 PB3 (PCINT3/XTAL1/CLKI/~{OC1B}/ADC3) (io), 3 PB4 (PCINT4/XTAL2/CLKO/OC1B/ADC2) (io), 4 GND (power), 5 PB0 (MOSI/DI/SDA/AIN0/OC0A/~{OC1A}/AREF/PCINT0) (io), 6 PB1 (MISO/DO/AIN1/OC0B/OC1A/PCINT1) (io), 7 PB2 (SCK/USCK/SCL/ADC1/T0/INT0/PCINT2) (io), 8 VCC (power)

## ATtiny45-20SH
designator U?
8-bit AVR Microcontroller, 20MHz, 2.7-5.5V, 4K Flash, 256 Bytes EEPROM, 256 Bytes SRAM, Industrial Grade (-40°C to 85°C), 8-Lead SOIC, Pb-Free; DatasheetVersion: revN, Apr-2011; PackageVersion: revF, Apr-2008; PackageReference: 8S2; PackageDescription: 8-Lead, 0.208" Body, Plastic Small Outline Package (EIAJ); ComponentLink1Description: Manufacturer URL; ComponentLink1URL: http://www.atmel.com/; ComponentLink2Description: ATtiny25/45/85 Datasheet; ComponentLink2URL: http://www.atmel.com/dyn/resources/prod_documents/doc2586.pdf; ComponentLink3Description: ATtiny25/45/85 Summary; ComponentLink3URL: http://www.atmel.com/dyn/resources/prod_documents/2586S.pdf
footprint 8S2_N (SOP, 8-Leads, Body 5.3x5.3mm, Pitch 1.27mm, IPC Medium Density)
footprint 8S2_L (SOP, 8-Leads, Body 5.3x5.3mm, Pitch 1.27mm, IPC High Density)
footprint 8S2_M (SOP, 8-Leads, Body 5.3x5.3mm, Pitch 1.27mm, IPC Low Density)
pins: 1 PB5 (PCINT5/~{RESET}/ADC0/DW) (io), 2 PB3 (PCINT3/XTAL1/CLKI/~{OC1B}/ADC3) (io), 3 PB4 (PCINT4/XTAL2/CLKO/OC1B/ADC2) (io), 4 GND (power), 5 PB0 (MOSI/DI/SDA/AIN0/OC0A/~{OC1A}/AREF/PCINT0) (io), 6 PB1 (MISO/DO/AIN1/OC0B/OC1A/PCINT1) (io), 7 PB2 (SCK/USCK/SCL/ADC1/T0/INT0/PCINT2) (io), 8 VCC (power)

## ATtiny45-20SU
designator U?
8-bit AVR Microcontroller, 20MHz, 2.7-5.5V, 4K Flash, 256 Bytes EEPROM, 256 Bytes SRAM, Industrial Grade (-40°C to 85°C), 8-Lead SOIC, Pb-Free; DatasheetVersion: revN, Apr-2011; PackageVersion: revF, Apr-2008; PackageReference: 8S2; PackageDescription: 8-Lead, 0.208" Body, Plastic Small Outline Package (EIAJ); ComponentLink1Description: Manufacturer URL; ComponentLink1URL: http://www.atmel.com/; ComponentLink2Description: ATtiny25/45/85 Datasheet; ComponentLink2URL: http://www.atmel.com/dyn/resources/prod_documents/doc2586.pdf; ComponentLink3Description: ATtiny25/45/85 Summary; ComponentLink3URL: http://www.atmel.com/dyn/resources/prod_documents/2586S.pdf
footprint 8S2_N (SOP, 8-Leads, Body 5.3x5.3mm, Pitch 1.27mm, IPC Medium Density)
footprint 8S2_L (SOP, 8-Leads, Body 5.3x5.3mm, Pitch 1.27mm, IPC High Density)
footprint 8S2_M (SOP, 8-Leads, Body 5.3x5.3mm, Pitch 1.27mm, IPC Low Density)
pins: 1 PB5 (PCINT5/~{RESET}/ADC0/DW) (io), 2 PB3 (PCINT3/XTAL1/CLKI/~{OC1B}/ADC3) (io), 3 PB4 (PCINT4/XTAL2/CLKO/OC1B/ADC2) (io), 4 GND (power), 5 PB0 (MOSI/DI/SDA/AIN0/OC0A/~{OC1A}/AREF/PCINT0) (io), 6 PB1 (MISO/DO/AIN1/OC0B/OC1A/PCINT1) (io), 7 PB2 (SCK/USCK/SCL/ADC1/T0/INT0/PCINT2) (io), 8 VCC (power)

## ATtiny45-20SUR
designator U?
8-bit AVR Microcontroller, 20MHz, 2.7-5.5V, 4K Flash, 256 Bytes EEPROM, 256 Bytes SRAM, Industrial Grade (-40°C to 85°C), 8-Lead SOIC, Pb-Free, Reel; DatasheetVersion: revN, Apr-2011; PackageVersion: revF, Apr-2008; PackageReference: 8S2; PackageDescription: 8-Lead, 0.208" Body, Plastic Small Outline Package (EIAJ); ComponentLink1Description: Manufacturer URL; ComponentLink1URL: http://www.atmel.com/; ComponentLink2Description: ATtiny25/45/85 Datasheet; ComponentLink2URL: http://www.atmel.com/dyn/resources/prod_documents/doc2586.pdf; ComponentLink3Description: ATtiny25/45/85 Summary; ComponentLink3URL: http://www.atmel.com/dyn/resources/prod_documents/2586S.pdf
footprint 8S2_N (SOP, 8-Leads, Body 5.3x5.3mm, Pitch 1.27mm, IPC Medium Density)
footprint 8S2_L (SOP, 8-Leads, Body 5.3x5.3mm, Pitch 1.27mm, IPC High Density)
footprint 8S2_M (SOP, 8-Leads, Body 5.3x5.3mm, Pitch 1.27mm, IPC Low Density)
pins: 1 PB5 (PCINT5/~{RESET}/ADC0/DW) (io), 2 PB3 (PCINT3/XTAL1/CLKI/~{OC1B}/ADC3) (io), 3 PB4 (PCINT4/XTAL2/CLKO/OC1B/ADC2) (io), 4 GND (power), 5 PB0 (MOSI/DI/SDA/AIN0/OC0A/~{OC1A}/AREF/PCINT0) (io), 6 PB1 (MISO/DO/AIN1/OC0B/OC1A/PCINT1) (io), 7 PB2 (SCK/USCK/SCL/ADC1/T0/INT0/PCINT2) (io), 8 VCC (power)

## ATtiny45-20XU
designator U?
8-bit AVR Microcontroller, 20MHz, 2.7-5.5V, 4K Flash, 256 Bytes EEPROM, 256 Bytes SRAM, Industrial Grade (-40°C to 85°C), 8-Lead TSSOP, Pb-Free; DatasheetVersion: revN, Apr-2011; PackageVersion: revA, Apr-2005; PackageReference: 8X; PackageDescription: 8-Pin Plastic Thin Shrink Small-Outline Package, 4.40 mm Body, 0.65 mm Pitch, TSSOP; ComponentLink1Description: Manufacturer URL; ComponentLink1URL: http://www.atmel.com/; ComponentLink2Description: ATtiny25/45/85 Datasheet; ComponentLink2URL: http://www.atmel.com/dyn/resources/prod_documents/doc2586.pdf; ComponentLink3Description: ATtiny25/45/85 Summary; ComponentLink3URL: http://www.atmel.com/dyn/resources/prod_documents/2586S.pdf
footprint 8X_N (TSOP, 8-Leads, Body 3x4.4mm, Pitch 0.65mm, IPC Medium Density)
footprint 8X_L (TSOP, 8-Leads, Body 3x4.4mm, Pitch 0.65mm, IPC High Density)
footprint 8X_M (TSOP, 8-Leads, Body 3x4.4mm, Pitch 0.65mm, IPC Low Density)
pins: 1 PB5 (PCINT5/~{RESET}/ADC0/DW) (io), 2 PB3 (PCINT3/XTAL1/CLKI/~{OC1B}/ADC3) (io), 3 PB4 (PCINT4/XTAL2/CLKO/OC1B/ADC2) (io), 4 GND (power), 5 PB0 (MOSI/DI/SDA/AIN0/OC0A/~{OC1A}/AREF/PCINT0) (io), 6 PB1 (MISO/DO/AIN1/OC0B/OC1A/PCINT1) (io), 7 PB2 (SCK/USCK/SCL/ADC1/T0/INT0/PCINT2) (io), 8 VCC (power)

## ATtiny45-20XUR
designator U?
8-bit AVR Microcontroller, 20MHz, 2.7-5.5V, 4K Flash, 256 Bytes EEPROM, 256 Bytes SRAM, Industrial Grade (-40°C to 85°C), 8-Lead TSSOP, Pb-Free; DatasheetVersion: revN, Apr-2011; PackageVersion: revA, Apr-2005; PackageReference: 8X; PackageDescription: 8-Pin Plastic Thin Shrink Small-Outline Package, 4.40 mm Body, 0.65 mm Pitch, TSSOP; ComponentLink1Description: Manufacturer URL; ComponentLink1URL: http://www.atmel.com/; ComponentLink2Description: ATtiny25/45/85 Datasheet; ComponentLink2URL: http://www.atmel.com/dyn/resources/prod_documents/doc2586.pdf; ComponentLink3Description: ATtiny25/45/85 Summary; ComponentLink3URL: http://www.atmel.com/dyn/resources/prod_documents/2586S.pdf
footprint 8X_N (TSOP, 8-Leads, Body 3x4.4mm, Pitch 0.65mm, IPC Medium Density)
footprint 8X_L (TSOP, 8-Leads, Body 3x4.4mm, Pitch 0.65mm, IPC High Density)
footprint 8X_M (TSOP, 8-Leads, Body 3x4.4mm, Pitch 0.65mm, IPC Low Density)
pins: 1 PB5 (PCINT5/~{RESET}/ADC0/DW) (io), 2 PB3 (PCINT3/XTAL1/CLKI/~{OC1B}/ADC3) (io), 3 PB4 (PCINT4/XTAL2/CLKO/OC1B/ADC2) (io), 4 GND (power), 5 PB0 (MOSI/DI/SDA/AIN0/OC0A/~{OC1A}/AREF/PCINT0) (io), 6 PB1 (MISO/DO/AIN1/OC0B/OC1A/PCINT1) (io), 7 PB2 (SCK/USCK/SCL/ADC1/T0/INT0/PCINT2) (io), 8 VCC (power)

## ATtiny45V-10MU
designator U?
8-bit AVR Microcontroller, 10MHz, 1.8-5.5V, 4K Flash, 256 Bytes EEPROM, 256 Bytes SRAM, Industrial Grade (-40°C to 85°C), 20-pad MLF, Pb-Free; DatasheetVersion: revN, Apr-2011; PackageVersion: revA, Oct-2004; PackageReference: 20M1; PackageDescription: 20-pad, 4 x 4 x 0.8 mm Body, Lead Pitch 0.50 mm, 2.6 mm Exposed Pad, Micro Lead Frame Package (MLF); Code_JEDEC: MO-220WGGD-5; ComponentLink1Description: Manufacturer URL; ComponentLink1URL: http://www.atmel.com/; ComponentLink2Description: ATtiny25/45/85 Datasheet; ComponentLink2URL: http://www.atmel.com/dyn/resources/prod_documents/doc2586.pdf; ComponentLink3Description: ATtiny25/45/85 Summary; ComponentLink3URL: http://www.atmel.com/dyn/resources/prod_documents/2586S.pdf
footprint 20M1_N (QFN, 20-Leads, Body 4x4mm, Pitch 0.5mm, Thermal Pad 2.7x2.7mm, IPC Medium Density)
footprint 20M1_L (QFN, 20-Leads, Body 4x4mm, Pitch 0.5mm, Thermal Pad 2.7x2.7mm, IPC High Density)
footprint 20M1_M (QFN, 20-Leads, Body 4x4mm, Pitch 0.5mm, Thermal Pad 2.7x2.7mm, IPC Low Density)
part A pins: 1 PB5 (PCINT5/~{RESET}/ADC0/DW) (io), 2 PB3 (PCINT3/XTAL1/CLKI/~{OC1B}/ADC3) (io), 5 PB4 (PCINT4/XTAL2/CLKO/OC1B/ADC2) (io), 8 GND (power), 11 PB0 (MOSI/DI/SDA/AIN0/OC0A/~{OC1A}/AREF/PCINT0) (io), 12 PB1 (MISO/DO/AIN1/OC0B/OC1A/PCINT1) (io), 14 PB2 (SCK/USCK/SCL/ADC1/T0/INT0/PCINT2) (io), 15 VCC (power)
part B pins: 3 DNC, 4 DNC, 6 DNC, 7 DNC, 9 DNC, 10 DNC, 13 DNC, 16 DNC, 17 DNC, 18 DNC, 19 DNC, 20 DNC, 21 DAP

## ATtiny45V-10MUR
designator U?
8-bit AVR Microcontroller, 10MHz, 1.8-5.5V, 4K Flash, 256 Bytes EEPROM, 256 Bytes SRAM, Industrial Grade (-40°C to 85°C), 20-pad MLF, Pb-Free, Reel; DatasheetVersion: revN, Apr-2011; PackageVersion: revA, Oct-2004; PackageReference: 20M1; PackageDescription: 20-pad, 4 x 4 x 0.8 mm Body, Lead Pitch 0.50 mm, 2.6 mm Exposed Pad, Micro Lead Frame Package (MLF); Code_JEDEC: MO-220WGGD-5; ComponentLink1Description: Manufacturer URL; ComponentLink1URL: http://www.atmel.com/; ComponentLink2Description: ATtiny25/45/85 Datasheet; ComponentLink2URL: http://www.atmel.com/dyn/resources/prod_documents/doc2586.pdf; ComponentLink3Description: ATtiny25/45/85 Summary; ComponentLink3URL: http://www.atmel.com/dyn/resources/prod_documents/2586S.pdf
footprint 20M1_N (QFN, 20-Leads, Body 4x4mm, Pitch 0.5mm, Thermal Pad 2.7x2.7mm, IPC Medium Density)
footprint 20M1_L (QFN, 20-Leads, Body 4x4mm, Pitch 0.5mm, Thermal Pad 2.7x2.7mm, IPC High Density)
footprint 20M1_M (QFN, 20-Leads, Body 4x4mm, Pitch 0.5mm, Thermal Pad 2.7x2.7mm, IPC Low Density)
part A pins: 1 PB5 (PCINT5/~{RESET}/ADC0/DW) (io), 2 PB3 (PCINT3/XTAL1/CLKI/~{OC1B}/ADC3) (io), 5 PB4 (PCINT4/XTAL2/CLKO/OC1B/ADC2) (io), 8 GND (power), 11 PB0 (MOSI/DI/SDA/AIN0/OC0A/~{OC1A}/AREF/PCINT0) (io), 12 PB1 (MISO/DO/AIN1/OC0B/OC1A/PCINT1) (io), 14 PB2 (SCK/USCK/SCL/ADC1/T0/INT0/PCINT2) (io), 15 VCC (power)
part B pins: 3 DNC, 4 DNC, 6 DNC, 7 DNC, 9 DNC, 10 DNC, 13 DNC, 16 DNC, 17 DNC, 18 DNC, 19 DNC, 20 DNC, 21 DAP

## ATtiny45V-10PU
designator U?
8-bit AVR Microcontroller, 10MHz, 1.8-5.5V, 4K Flash, 256 Bytes EEPROM, 256 Bytes SRAM, Industrial Grade (-40°C to 85°C), 8-Lead PDIP, Pb-Free; DatasheetVersion: revN, Apr-2011; PackageVersion: revB, Jan-2002; PackageReference: 8P3; PackageDescription: 8-Lead, 0.300" Wide Body, Plastic Dual In-Line Package (PDIP); Code_JEDEC: MS-001-BA; ComponentLink1Description: Manufacturer URL; ComponentLink1URL: http://www.atmel.com/; ComponentLink2Description: ATtiny25/45/85 Datasheet; ComponentLink2URL: http://www.atmel.com/dyn/resources/prod_documents/doc2586.pdf; ComponentLink3Description: ATtiny25/45/85 Summary; ComponentLink3URL: http://www.atmel.com/dyn/resources/prod_documents/2586S.pdf
footprint 8P3 (DIP, 8-Leads, Row Spacing 7.62mm, Pitch 2.54mm, Body 9.59x6.61mm)
pins: 1 PB5 (PCINT5/~{RESET}/ADC0/DW) (io), 2 PB3 (PCINT3/XTAL1/CLKI/~{OC1B}/ADC3) (io), 3 PB4 (PCINT4/XTAL2/CLKO/OC1B/ADC2) (io), 4 GND (power), 5 PB0 (MOSI/DI/SDA/AIN0/OC0A/~{OC1A}/AREF/PCINT0) (io), 6 PB1 (MISO/DO/AIN1/OC0B/OC1A/PCINT1) (io), 7 PB2 (SCK/USCK/SCL/ADC1/T0/INT0/PCINT2) (io), 8 VCC (power)

## ATtiny45V-10SH
designator U?
8-bit AVR Microcontroller, 10MHz, 1.8-5.5V, 4K Flash, 256 Bytes EEPROM, 256 Bytes SRAM, Industrial Grade (-40°C to 85°C), 8-Lead SOIC, Pb-Free; DatasheetVersion: revN, Apr-2011; PackageVersion: revF, Apr-2008; PackageReference: 8S2; PackageDescription: 8-Lead, 0.208" Body, Plastic Small Outline Package (EIAJ); ComponentLink1Description: Manufacturer URL; ComponentLink1URL: http://www.atmel.com/; ComponentLink2Description: ATtiny25/45/85 Datasheet; ComponentLink2URL: http://www.atmel.com/dyn/resources/prod_documents/doc2586.pdf; ComponentLink3Description: ATtiny25/45/85 Summary; ComponentLink3URL: http://www.atmel.com/dyn/resources/prod_documents/2586S.pdf
footprint 8S2_N (SOP, 8-Leads, Body 5.3x5.3mm, Pitch 1.27mm, IPC Medium Density)
footprint 8S2_L (SOP, 8-Leads, Body 5.3x5.3mm, Pitch 1.27mm, IPC High Density)
footprint 8S2_M (SOP, 8-Leads, Body 5.3x5.3mm, Pitch 1.27mm, IPC Low Density)
pins: 1 PB5 (PCINT5/~{RESET}/ADC0/DW) (io), 2 PB3 (PCINT3/XTAL1/CLKI/~{OC1B}/ADC3) (io), 3 PB4 (PCINT4/XTAL2/CLKO/OC1B/ADC2) (io), 4 GND (power), 5 PB0 (MOSI/DI/SDA/AIN0/OC0A/~{OC1A}/AREF/PCINT0) (io), 6 PB1 (MISO/DO/AIN1/OC0B/OC1A/PCINT1) (io), 7 PB2 (SCK/USCK/SCL/ADC1/T0/INT0/PCINT2) (io), 8 VCC (power)

## ATtiny45V-10SU
designator U?
8-bit AVR Microcontroller, 10MHz, 1.8-5.5V, 4K Flash, 256 Bytes EEPROM, 256 Bytes SRAM, Industrial Grade (-40°C to 85°C), 8-Lead SOIC, Pb-Free; DatasheetVersion: revN, Apr-2011; PackageVersion: revF, Apr-2008; PackageReference: 8S2; PackageDescription: 8-Lead, 0.208" Body, Plastic Small Outline Package (EIAJ); ComponentLink1Description: Manufacturer URL; ComponentLink1URL: http://www.atmel.com/; ComponentLink2Description: ATtiny25/45/85 Datasheet; ComponentLink2URL: http://www.atmel.com/dyn/resources/prod_documents/doc2586.pdf; ComponentLink3Description: ATtiny25/45/85 Summary; ComponentLink3URL: http://www.atmel.com/dyn/resources/prod_documents/2586S.pdf
footprint 8S2_N (SOP, 8-Leads, Body 5.3x5.3mm, Pitch 1.27mm, IPC Medium Density)
footprint 8S2_L (SOP, 8-Leads, Body 5.3x5.3mm, Pitch 1.27mm, IPC High Density)
footprint 8S2_M (SOP, 8-Leads, Body 5.3x5.3mm, Pitch 1.27mm, IPC Low Density)
pins: 1 PB5 (PCINT5/~{RESET}/ADC0/DW) (io), 2 PB3 (PCINT3/XTAL1/CLKI/~{OC1B}/ADC3) (io), 3 PB4 (PCINT4/XTAL2/CLKO/OC1B/ADC2) (io), 4 GND (power), 5 PB0 (MOSI/DI/SDA/AIN0/OC0A/~{OC1A}/AREF/PCINT0) (io), 6 PB1 (MISO/DO/AIN1/OC0B/OC1A/PCINT1) (io), 7 PB2 (SCK/USCK/SCL/ADC1/T0/INT0/PCINT2) (io), 8 VCC (power)

## ATtiny45V-10SUR
designator U?
8-bit AVR Microcontroller, 10MHz, 1.8-5.5V, 4K Flash, 256 Bytes EEPROM, 256 Bytes SRAM, Industrial Grade (-40°C to 85°C), 8-Lead SOIC, Pb-Free, Reel; DatasheetVersion: revN, Apr-2011; PackageVersion: revF, Apr-2008; PackageReference: 8S2; PackageDescription: 8-Lead, 0.208" Body, Plastic Small Outline Package (EIAJ); ComponentLink1Description: Manufacturer URL; ComponentLink1URL: http://www.atmel.com/; ComponentLink2Description: ATtiny25/45/85 Datasheet; ComponentLink2URL: http://www.atmel.com/dyn/resources/prod_documents/doc2586.pdf; ComponentLink3Description: ATtiny25/45/85 Summary; ComponentLink3URL: http://www.atmel.com/dyn/resources/prod_documents/2586S.pdf
footprint 8S2_N (SOP, 8-Leads, Body 5.3x5.3mm, Pitch 1.27mm, IPC Medium Density)
footprint 8S2_L (SOP, 8-Leads, Body 5.3x5.3mm, Pitch 1.27mm, IPC High Density)
footprint 8S2_M (SOP, 8-Leads, Body 5.3x5.3mm, Pitch 1.27mm, IPC Low Density)
pins: 1 PB5 (PCINT5/~{RESET}/ADC0/DW) (io), 2 PB3 (PCINT3/XTAL1/CLKI/~{OC1B}/ADC3) (io), 3 PB4 (PCINT4/XTAL2/CLKO/OC1B/ADC2) (io), 4 GND (power), 5 PB0 (MOSI/DI/SDA/AIN0/OC0A/~{OC1A}/AREF/PCINT0) (io), 6 PB1 (MISO/DO/AIN1/OC0B/OC1A/PCINT1) (io), 7 PB2 (SCK/USCK/SCL/ADC1/T0/INT0/PCINT2) (io), 8 VCC (power)

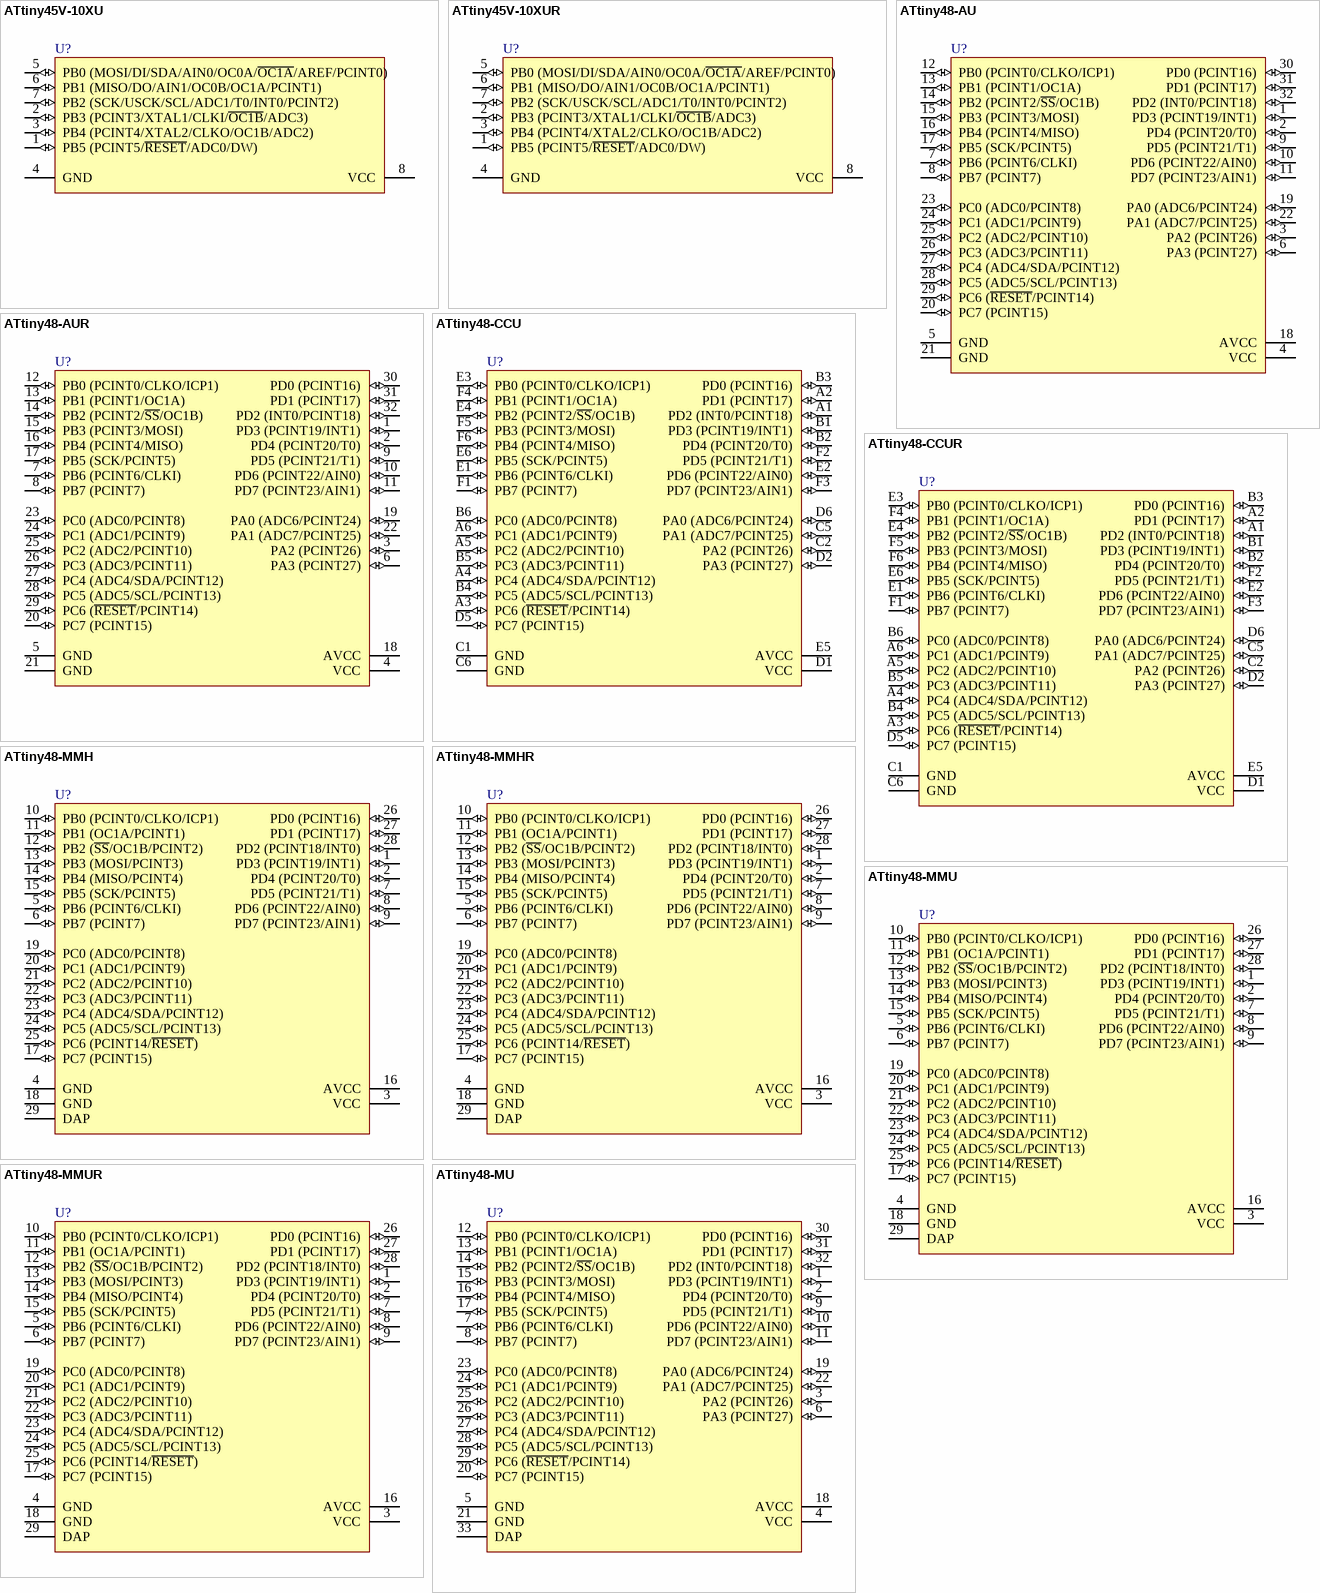
[diagram p14: symbols ATtiny45V-10XU to ATtiny48-MU]

## ATtiny45V-10XU
designator U?
8-bit AVR Microcontroller, 10MHz, 1.8-5.5V, 4K Flash, 256 Bytes EEPROM, 256 Bytes SRAM, Industrial Grade (-40°C to 85°C), 8-Lead TSSOP, Pb-Free; DatasheetVersion: revN, Apr-2011; PackageVersion: revA, Apr-2005; PackageReference: 8X; PackageDescription: 8-Pin Plastic Thin Shrink Small-Outline Package, 4.40 mm Body, 0.65 mm Pitch, TSSOP; ComponentLink1Description: Manufacturer URL; ComponentLink1URL: http://www.atmel.com/; ComponentLink2Description: ATtiny25/45/85 Datasheet; ComponentLink2URL: http://www.atmel.com/dyn/resources/prod_documents/doc2586.pdf; ComponentLink3Description: ATtiny25/45/85 Summary; ComponentLink3URL: http://www.atmel.com/dyn/resources/prod_documents/2586S.pdf
footprint 8X_N (TSOP, 8-Leads, Body 3x4.4mm, Pitch 0.65mm, IPC Medium Density)
footprint 8X_L (TSOP, 8-Leads, Body 3x4.4mm, Pitch 0.65mm, IPC High Density)
footprint 8X_M (TSOP, 8-Leads, Body 3x4.4mm, Pitch 0.65mm, IPC Low Density)
pins: 1 PB5 (PCINT5/~{RESET}/ADC0/DW) (io), 2 PB3 (PCINT3/XTAL1/CLKI/~{OC1B}/ADC3) (io), 3 PB4 (PCINT4/XTAL2/CLKO/OC1B/ADC2) (io), 4 GND (power), 5 PB0 (MOSI/DI/SDA/AIN0/OC0A/~{OC1A}/AREF/PCINT0) (io), 6 PB1 (MISO/DO/AIN1/OC0B/OC1A/PCINT1) (io), 7 PB2 (SCK/USCK/SCL/ADC1/T0/INT0/PCINT2) (io), 8 VCC (power)

## ATtiny45V-10XUR
designator U?
8-bit AVR Microcontroller, 10MHz, 1.8-5.5V, 4K Flash, 256 Bytes EEPROM, 256 Bytes SRAM, Industrial Grade (-40°C to 85°C), 8-Lead TSSOP, Pb-Free, Reel; DatasheetVersion: revN, Apr-2011; PackageVersion: revA, Apr-2005; PackageReference: 8X; PackageDescription: 8-Pin Plastic Thin Shrink Small-Outline Package, 4.40 mm Body, 0.65 mm Pitch, TSSOP; ComponentLink1Description: Manufacturer URL; ComponentLink1URL: http://www.atmel.com/; ComponentLink2Description: ATtiny25/45/85 Datasheet; ComponentLink2URL: http://www.atmel.com/dyn/resources/prod_documents/doc2586.pdf; ComponentLink3Description: ATtiny25/45/85 Summary; ComponentLink3URL: http://www.atmel.com/dyn/resources/prod_documents/2586S.pdf
footprint 8X_N (TSOP, 8-Leads, Body 3x4.4mm, Pitch 0.65mm, IPC Medium Density)
footprint 8X_L (TSOP, 8-Leads, Body 3x4.4mm, Pitch 0.65mm, IPC High Density)
footprint 8X_M (TSOP, 8-Leads, Body 3x4.4mm, Pitch 0.65mm, IPC Low Density)
pins: 1 PB5 (PCINT5/~{RESET}/ADC0/DW) (io), 2 PB3 (PCINT3/XTAL1/CLKI/~{OC1B}/ADC3) (io), 3 PB4 (PCINT4/XTAL2/CLKO/OC1B/ADC2) (io), 4 GND (power), 5 PB0 (MOSI/DI/SDA/AIN0/OC0A/~{OC1A}/AREF/PCINT0) (io), 6 PB1 (MISO/DO/AIN1/OC0B/OC1A/PCINT1) (io), 7 PB2 (SCK/USCK/SCL/ADC1/T0/INT0/PCINT2) (io), 8 VCC (power)

## ATtiny48-AU
designator U?
8-bit AVR Microcontroller, 1.8-5.5V, 12MHz, 4KB Flash, 64 Bytes EEPROM, 256 Bytes SRAM, 32-pin TQFP, Industrial Grade (-40°C to 85°C), Pb-Free; DatasheetVersion: revH, Apr-2011; PackageVersion: revC, Oct-2010; PackageReference: 32A; PackageDescription: 32-Lead, 7x7x1.0 mm Body, 0.8mm Lead Pitch, Thin Profile Plastic Quad Flat Package (TQFP); Code_JEDEC: MS-026-ABA; ComponentLink1Description: Manufacturer URL; ComponentLink1URL: http://www.atmel.com/; ComponentLink2Description: ATtiny48/88 Datasheet; ComponentLink2URL: http://www.atmel.com/dyn/resources/prod_documents/doc8008.pdf; ComponentLink3Description: ATtiny48/88 Summary; ComponentLink3URL: http://www.atmel.com/dyn/resources/prod_documents/8008S.pdf
footprint 32A_N (Thin QFP, 32-Leads, Body 7x7mm, Pitch 0.8mm, IPC Medium Density)
footprint 32A_L (Thin QFP, 32-Leads, Body 7x7mm, Pitch 0.8mm, IPC High Density)
footprint 32A_M (Thin QFP, 32-Leads, Body 7x7mm, Pitch 0.8mm, IPC Low Density)
pins: 1 PD3 (PCINT19/INT1) (io), 2 PD4 (PCINT20/T0) (io), 3 PA2 (PCINT26) (io), 4 VCC (power), 5 GND (power), 6 PA3 (PCINT27) (io), 7 PB6 (PCINT6/CLKI) (io), 8 PB7 (PCINT7) (io), 9 PD5 (PCINT21/T1) (io), 10 PD6 (PCINT22/AIN0) (io), 11 PD7 (PCINT23/AIN1) (io), 12 PB0 (PCINT0/CLKO/ICP1) (io), 13 PB1 (PCINT1/OC1A) (io), 14 PB2 (PCINT2/~{SS}/OC1B) (io), 15 PB3 (PCINT3/MOSI) (io), 16 PB4 (PCINT4/MISO) (io), 17 PB5 (SCK/PCINT5) (io), 18 AVCC (power), 19 PA0 (ADC6/PCINT24) (io), 20 PC7 (PCINT15) (io), 21 GND (power), 22 PA1 (ADC7/PCINT25) (io), 23 PC0 (ADC0/PCINT8) (io), 24 PC1 (ADC1/PCINT9) (io), 25 PC2 (ADC2/PCINT10) (io), 26 PC3 (ADC3/PCINT11) (io), 27 PC4 (ADC4/SDA/PCINT12) (io), 28 PC5 (ADC5/SCL/PCINT13) (io), 29 PC6 (~{RESET}/PCINT14) (io), 30 PD0 (PCINT16) (io), 31 PD1 (PCINT17) (io), 32 PD2 (INT0/PCINT18) (io)

## ATtiny48-AUR
designator U?
8-bit AVR Microcontroller, 1.8-5.5V, 12MHz, 4KB Flash, 64 Bytes EEPROM, 256 Bytes SRAM, 32-pin TQFP, Industrial Grade (-40°C to 85°C), Pb-Free, Reel; DatasheetVersion: revC, Mar-2009; PackageVersion: revC, Oct-2010; PackageReference: 32A; PackageDescription: 32-Lead, 7x7x1.0 mm Body, 0.8mm Lead Pitch, Thin Profile Plastic Quad Flat Package (TQFP); Code_JEDEC: MS-026-ABA; ComponentLink1Description: Manufacturer URL; ComponentLink1URL: http://www.atmel.com/; ComponentLink2Description: ATtiny48/88 Datasheet; ComponentLink2URL: http://www.atmel.com/dyn/resources/prod_documents/doc8008.pdf; ComponentLink3Description: ATtiny48/88 Summary; ComponentLink3URL: http://www.atmel.com/dyn/resources/prod_documents/8008S.pdf
footprint 32A_N (Thin QFP, 32-Leads, Body 7x7mm, Pitch 0.8mm, IPC Medium Density)
footprint 32A_L (Thin QFP, 32-Leads, Body 7x7mm, Pitch 0.8mm, IPC High Density)
footprint 32A_M (Thin QFP, 32-Leads, Body 7x7mm, Pitch 0.8mm, IPC Low Density)
pins: 1 PD3 (PCINT19/INT1) (io), 2 PD4 (PCINT20/T0) (io), 3 PA2 (PCINT26) (io), 4 VCC (power), 5 GND (power), 6 PA3 (PCINT27) (io), 7 PB6 (PCINT6/CLKI) (io), 8 PB7 (PCINT7) (io), 9 PD5 (PCINT21/T1) (io), 10 PD6 (PCINT22/AIN0) (io), 11 PD7 (PCINT23/AIN1) (io), 12 PB0 (PCINT0/CLKO/ICP1) (io), 13 PB1 (PCINT1/OC1A) (io), 14 PB2 (PCINT2/~{SS}/OC1B) (io), 15 PB3 (PCINT3/MOSI) (io), 16 PB4 (PCINT4/MISO) (io), 17 PB5 (SCK/PCINT5) (io), 18 AVCC (power), 19 PA0 (ADC6/PCINT24) (io), 20 PC7 (PCINT15) (io), 21 GND (power), 22 PA1 (ADC7/PCINT25) (io), 23 PC0 (ADC0/PCINT8) (io), 24 PC1 (ADC1/PCINT9) (io), 25 PC2 (ADC2/PCINT10) (io), 26 PC3 (ADC3/PCINT11) (io), 27 PC4 (ADC4/SDA/PCINT12) (io), 28 PC5 (ADC5/SCL/PCINT13) (io), 29 PC6 (~{RESET}/PCINT14) (io), 30 PD0 (PCINT16) (io), 31 PD1 (PCINT17) (io), 32 PD2 (INT0/PCINT18) (io)